# Altium schematic symbol library MCU_Microchip_ATtiny.SchLib: 223 symbols (part 2 of 3)
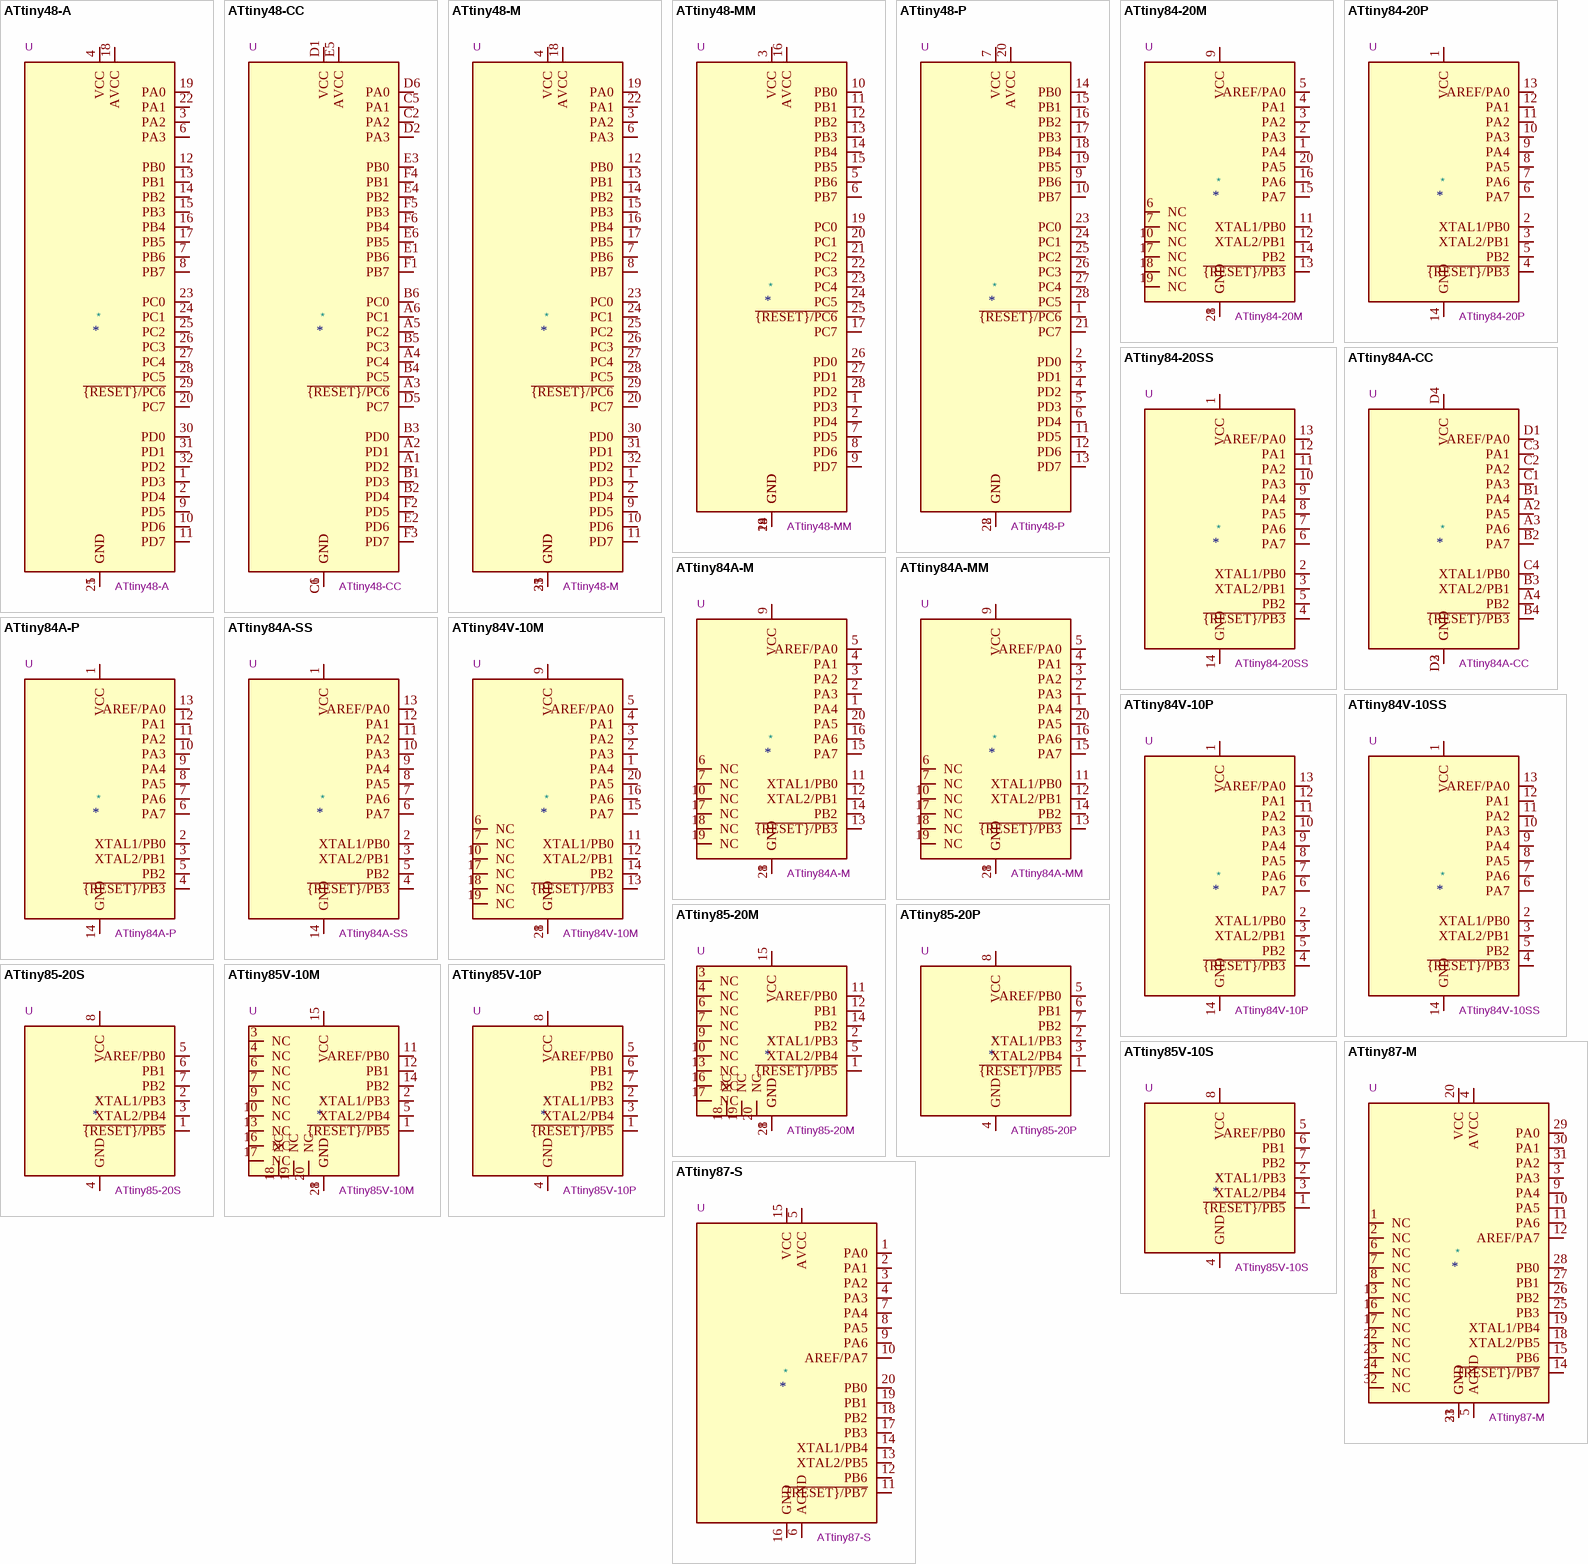
[diagram p10: symbols ATtiny48-A to ATtiny87-S]

## ATtiny48-P
designator *  value ATtiny48-P  Reference: U
12MHz, 4kB Flash, 256B SRAM, 64B EEPROM, DIP-28; ki_keywords: AVR 8bit Microcontroller tinyAVR; ki_fp_filters: DIP*W7.62mm*; Footprint: Package_DIP:DIP-28_W7.62mm; Datasheet: http://ww1.microchip.com/downloads/en/DeviceDoc/doc8008.pdf; Description_: 12MHz, 4kB Flash, 256B SRAM, 64B EEPROM, DIP-28
pins: 1 ~{{RESET}/PC6}, 2 PD0, 3 PD1, 4 PD2, 5 PD3, 6 PD4, 7 VCC, 8 GND, 9 PB6, 10 PB7, 11 PD5, 12 PD6, 13 PD7, 14 PB0, 15 PB1, 16 PB2, 17 PB3, 18 PB4, 19 PB5, 20 AVCC, 21 PC7, 22 GND, 23 PC0, 24 PC1, 25 PC2, 26 PC3, 27 PC4, 28 PC5

## ATtiny84-20M
designator *  value ATtiny84-20M  Reference: U
20MHz, 8kB Flash, 512B SRAM, 512B EEPROM, debugWIRE, QFN-20; ki_keywords: AVR 8bit Microcontroller tinyAVR; ki_fp_filters: QFN*1EP*4x4mm*P0.5mm*; Footprint: Package_DFN_QFN:QFN-20-1EP_4x4mm_P0.5mm_EP2.6x2.6mm; Datasheet: http://ww1.microchip.com/downloads/en/DeviceDoc/doc8006.pdf; Description_: 20MHz, 8kB Flash, 512B SRAM, 512B EEPROM, debugWIRE, QFN-20
pins: 1 PA4, 2 PA3, 3 PA2, 4 PA1, 5 AREF/PA0, 6 NC, 7 NC, 8 GND, 9 VCC, 10 NC, 11 XTAL1/PB0, 12 XTAL2/PB1, 13 ~{{RESET}/PB3}, 14 PB2, 15 PA7, 16 PA6, 17 NC, 18 NC, 19 NC, 20 PA5, 21 GND

## ATtiny84-20P
designator *  value ATtiny84-20P  Reference: U
20MHz, 8kB Flash, 512B SRAM, 512B EEPROM, debugWIRE, DIP-14; ki_keywords: AVR 8bit Microcontroller tinyAVR; ki_fp_filters: DIP*W7.62mm*; Footprint: Package_DIP:DIP-14_W7.62mm; Datasheet: http://ww1.microchip.com/downloads/en/DeviceDoc/doc8006.pdf; Description_: 20MHz, 8kB Flash, 512B SRAM, 512B EEPROM, debugWIRE, DIP-14
pins: 1 VCC, 2 XTAL1/PB0, 3 XTAL2/PB1, 4 ~{{RESET}/PB3}, 5 PB2, 6 PA7, 7 PA6, 8 PA5, 9 PA4, 10 PA3, 11 PA2, 12 PA1, 13 AREF/PA0, 14 GND

## ATtiny84-20SS
designator *  value ATtiny84-20SS  Reference: U
20MHz, 8kB Flash, 512B SRAM, 512B EEPROM, debugWIRE, SOIC-14; ki_keywords: AVR 8bit Microcontroller tinyAVR; ki_fp_filters: SOIC*3.9x8.7mm*P1.27mm*; Footprint: Package_SO:SOIC-14_3.9x8.7mm_P1.27mm; Datasheet: http://ww1.microchip.com/downloads/en/DeviceDoc/doc8006.pdf; Description_: 20MHz, 8kB Flash, 512B SRAM, 512B EEPROM, debugWIRE, SOIC-14
pins: 1 VCC, 2 XTAL1/PB0, 3 XTAL2/PB1, 4 ~{{RESET}/PB3}, 5 PB2, 6 PA7, 7 PA6, 8 PA5, 9 PA4, 10 PA3, 11 PA2, 12 PA1, 13 AREF/PA0, 14 GND

## ATtiny84A-CC
designator *  value ATtiny84A-CC  Reference: U
20MHz, 8kB Flash, 512B SRAM, 512B EEPROM, debugWIRE, UFBGA-15; ki_keywords: AVR 8bit Microcontroller tinyAVR; ki_fp_filters: UFBGA*3.0x3.0mm*Layout4x4*P0.65mm*; Footprint: Package_BGA:UFBGA-15_3.0x3.0mm_Layout4x4_P0.65mm; Datasheet: http://ww1.microchip.com/downloads/en/DeviceDoc/doc8183.pdf; Description_: 20MHz, 8kB Flash, 512B SRAM, 512B EEPROM, debugWIRE, UFBGA-15
pins: A2 PA5, A3 PA6, A4 PB2, B1 PA4, B2 PA7, B3 XTAL2/PB1, B4 ~{{RESET}/PB3}, C1 PA3, C2 PA2, C3 PA1, C4 XTAL1/PB0, D1 AREF/PA0, D2 GND, D3 GND, D4 VCC

## ATtiny84A-M
designator *  value ATtiny84A-M  Reference: U
20MHz, 8kB Flash, 512B SRAM, 512B EEPROM, debugWIRE, QFN-20; ki_keywords: AVR 8bit Microcontroller tinyAVR; ki_fp_filters: QFN*1EP*4x4mm*P0.5mm*; Footprint: Package_DFN_QFN:QFN-20-1EP_4x4mm_P0.5mm_EP2.6x2.6mm; Datasheet: http://ww1.microchip.com/downloads/en/DeviceDoc/doc8183.pdf; Description_: 20MHz, 8kB Flash, 512B SRAM, 512B EEPROM, debugWIRE, QFN-20
pins: 1 PA4, 2 PA3, 3 PA2, 4 PA1, 5 AREF/PA0, 6 NC, 7 NC, 8 GND, 9 VCC, 10 NC, 11 XTAL1/PB0, 12 XTAL2/PB1, 13 ~{{RESET}/PB3}, 14 PB2, 15 PA7, 16 PA6, 17 NC, 18 NC, 19 NC, 20 PA5, 21 GND

## ATtiny84A-MM
designator *  value ATtiny84A-MM  Reference: U
20MHz, 8kB Flash, 512B SRAM, 512B EEPROM, debugWIRE, QFN-20; ki_keywords: AVR 8bit Microcontroller tinyAVR; ki_fp_filters: QFN*1EP*3x3mm*P0.45mm*; Footprint: Package_DFN_QFN:QFN-20-1EP_3x3mm_P0.45mm_EP1.6x1.6mm; Datasheet: http://ww1.microchip.com/downloads/en/DeviceDoc/doc8183.pdf; Description_: 20MHz, 8kB Flash, 512B SRAM, 512B EEPROM, debugWIRE, QFN-20
pins: 1 PA4, 2 PA3, 3 PA2, 4 PA1, 5 AREF/PA0, 6 NC, 7 NC, 8 GND, 9 VCC, 10 NC, 11 XTAL1/PB0, 12 XTAL2/PB1, 13 ~{{RESET}/PB3}, 14 PB2, 15 PA7, 16 PA6, 17 NC, 18 NC, 19 NC, 20 PA5, 21 GND

## ATtiny84A-P
designator *  value ATtiny84A-P  Reference: U
20MHz, 8kB Flash, 512B SRAM, 512B EEPROM, debugWIRE, DIP-14; ki_keywords: AVR 8bit Microcontroller tinyAVR; ki_fp_filters: DIP*W7.62mm*; Footprint: Package_DIP:DIP-14_W7.62mm; Datasheet: http://ww1.microchip.com/downloads/en/DeviceDoc/doc8183.pdf; Description_: 20MHz, 8kB Flash, 512B SRAM, 512B EEPROM, debugWIRE, DIP-14
pins: 1 VCC, 2 XTAL1/PB0, 3 XTAL2/PB1, 4 ~{{RESET}/PB3}, 5 PB2, 6 PA7, 7 PA6, 8 PA5, 9 PA4, 10 PA3, 11 PA2, 12 PA1, 13 AREF/PA0, 14 GND

## ATtiny84A-SS
designator *  value ATtiny84A-SS  Reference: U
20MHz, 8kB Flash, 512B SRAM, 512B EEPROM, debugWIRE, SOIC-14; ki_keywords: AVR 8bit Microcontroller tinyAVR; ki_fp_filters: SOIC*3.9x8.7mm*P1.27mm*; Footprint: Package_SO:SOIC-14_3.9x8.7mm_P1.27mm; Datasheet: http://ww1.microchip.com/downloads/en/DeviceDoc/doc8183.pdf; Description_: 20MHz, 8kB Flash, 512B SRAM, 512B EEPROM, debugWIRE, SOIC-14
pins: 1 VCC, 2 XTAL1/PB0, 3 XTAL2/PB1, 4 ~{{RESET}/PB3}, 5 PB2, 6 PA7, 7 PA6, 8 PA5, 9 PA4, 10 PA3, 11 PA2, 12 PA1, 13 AREF/PA0, 14 GND

## ATtiny84V-10M
designator *  value ATtiny84V-10M  Reference: U
10MHz, 8kB Flash, 512B SRAM, 512B EEPROM, debugWIRE, QFN-20; ki_keywords: AVR 8bit Microcontroller tinyAVR; ki_fp_filters: QFN*1EP*4x4mm*P0.5mm*; Footprint: Package_DFN_QFN:QFN-20-1EP_4x4mm_P0.5mm_EP2.6x2.6mm; Datasheet: http://ww1.microchip.com/downloads/en/DeviceDoc/doc8006.pdf; Description_: 10MHz, 8kB Flash, 512B SRAM, 512B EEPROM, debugWIRE, QFN-20
pins: 1 PA4, 2 PA3, 3 PA2, 4 PA1, 5 AREF/PA0, 6 NC, 7 NC, 8 GND, 9 VCC, 10 NC, 11 XTAL1/PB0, 12 XTAL2/PB1, 13 ~{{RESET}/PB3}, 14 PB2, 15 PA7, 16 PA6, 17 NC, 18 NC, 19 NC, 20 PA5, 21 GND

## ATtiny84V-10P
designator *  value ATtiny84V-10P  Reference: U
10MHz, 8kB Flash, 512B SRAM, 512B EEPROM, debugWIRE, DIP-14; ki_keywords: AVR 8bit Microcontroller tinyAVR; ki_fp_filters: DIP*W7.62mm*; Footprint: Package_DIP:DIP-14_W7.62mm; Datasheet: http://ww1.microchip.com/downloads/en/DeviceDoc/doc8006.pdf; Description_: 10MHz, 8kB Flash, 512B SRAM, 512B EEPROM, debugWIRE, DIP-14
pins: 1 VCC, 2 XTAL1/PB0, 3 XTAL2/PB1, 4 ~{{RESET}/PB3}, 5 PB2, 6 PA7, 7 PA6, 8 PA5, 9 PA4, 10 PA3, 11 PA2, 12 PA1, 13 AREF/PA0, 14 GND

## ATtiny84V-10SS
designator *  value ATtiny84V-10SS  Reference: U
10MHz, 8kB Flash, 512B SRAM, 512B EEPROM, debugWIRE, SOIC-14; ki_keywords: AVR 8bit Microcontroller tinyAVR; ki_fp_filters: SOIC*3.9x8.7mm*P1.27mm*; Footprint: Package_SO:SOIC-14_3.9x8.7mm_P1.27mm; Datasheet: http://ww1.microchip.com/downloads/en/DeviceDoc/doc8006.pdf; Description_: 10MHz, 8kB Flash, 512B SRAM, 512B EEPROM, debugWIRE, SOIC-14
pins: 1 VCC, 2 XTAL1/PB0, 3 XTAL2/PB1, 4 ~{{RESET}/PB3}, 5 PB2, 6 PA7, 7 PA6, 8 PA5, 9 PA4, 10 PA3, 11 PA2, 12 PA1, 13 AREF/PA0, 14 GND

## ATtiny85-20M
designator *  value ATtiny85-20M  Reference: U
20MHz, 8kB Flash, 512B SRAM, 512B EEPROM, debugWIRE, QFN-20; ki_keywords: AVR 8bit Microcontroller tinyAVR; ki_fp_filters: QFN*1EP*4x4mm*P0.5mm*; Footprint: Package_DFN_QFN:QFN-20-1EP_4x4mm_P0.5mm_EP2.6x2.6mm; Datasheet: http://ww1.microchip.com/downloads/en/DeviceDoc/atmel-2586-avr-8-bit-microcontroller-attiny25-attiny45-attiny85_datasheet.pdf; Description_: 20MHz, 8kB Flash, 512B SRAM, 512B EEPROM, debugWIRE, QFN-20
pins: 1 ~{{RESET}/PB5}, 2 XTAL1/PB3, 3 NC, 4 NC, 5 XTAL2/PB4, 6 NC, 7 NC, 8 GND, 9 NC, 10 NC, 11 AREF/PB0, 12 PB1, 13 NC, 14 PB2, 15 VCC, 16 NC, 17 NC, 18 NC, 19 NC, 20 NC, 21 GND

## ATtiny85-20P
designator *  value ATtiny85-20P  Reference: U
20MHz, 8kB Flash, 512B SRAM, 512B EEPROM, debugWIRE, DIP-8; ki_keywords: AVR 8bit Microcontroller tinyAVR; ki_fp_filters: DIP*W7.62mm*; Footprint: Package_DIP:DIP-8_W7.62mm; Datasheet: http://ww1.microchip.com/downloads/en/DeviceDoc/atmel-2586-avr-8-bit-microcontroller-attiny25-attiny45-attiny85_datasheet.pdf; Description_: 20MHz, 8kB Flash, 512B SRAM, 512B EEPROM, debugWIRE, DIP-8
pins: 1 ~{{RESET}/PB5}, 2 XTAL1/PB3, 3 XTAL2/PB4, 4 GND, 5 AREF/PB0, 6 PB1, 7 PB2, 8 VCC

## ATtiny85-20S
designator *  value ATtiny85-20S  Reference: U
20MHz, 8kB Flash, 512B SRAM, 512B EEPROM, debugWIRE, SOIC-8; ki_keywords: AVR 8bit Microcontroller tinyAVR; ki_fp_filters: *SOIC*5.3x5.3mm*P1.27mm*; Footprint: Package_SO:SOIC-8_5.3x5.3mm_P1.27mm; Datasheet: http://ww1.microchip.com/downloads/en/DeviceDoc/atmel-2586-avr-8-bit-microcontroller-attiny25-attiny45-attiny85_datasheet.pdf; Description_: 20MHz, 8kB Flash, 512B SRAM, 512B EEPROM, debugWIRE, SOIC-8
pins: 1 ~{{RESET}/PB5}, 2 XTAL1/PB3, 3 XTAL2/PB4, 4 GND, 5 AREF/PB0, 6 PB1, 7 PB2, 8 VCC

## ATtiny85V-10M
designator *  value ATtiny85V-10M  Reference: U
10MHz, 8kB Flash, 512B SRAM, 512B EEPROM, debugWIRE, QFN-20; ki_keywords: AVR 8bit Microcontroller tinyAVR; ki_fp_filters: QFN*1EP*4x4mm*P0.5mm*; Footprint: Package_DFN_QFN:QFN-20-1EP_4x4mm_P0.5mm_EP2.6x2.6mm; Datasheet: http://ww1.microchip.com/downloads/en/DeviceDoc/atmel-2586-avr-8-bit-microcontroller-attiny25-attiny45-attiny85_datasheet.pdf; Description_: 10MHz, 8kB Flash, 512B SRAM, 512B EEPROM, debugWIRE, QFN-20
pins: 1 ~{{RESET}/PB5}, 2 XTAL1/PB3, 3 NC, 4 NC, 5 XTAL2/PB4, 6 NC, 7 NC, 8 GND, 9 NC, 10 NC, 11 AREF/PB0, 12 PB1, 13 NC, 14 PB2, 15 VCC, 16 NC, 17 NC, 18 NC, 19 NC, 20 NC, 21 GND

## ATtiny85V-10P
designator *  value ATtiny85V-10P  Reference: U
10MHz, 8kB Flash, 512B SRAM, 512B EEPROM, debugWIRE, DIP-8; ki_keywords: AVR 8bit Microcontroller tinyAVR; ki_fp_filters: DIP*W7.62mm*; Footprint: Package_DIP:DIP-8_W7.62mm; Datasheet: http://ww1.microchip.com/downloads/en/DeviceDoc/atmel-2586-avr-8-bit-microcontroller-attiny25-attiny45-attiny85_datasheet.pdf; Description_: 10MHz, 8kB Flash, 512B SRAM, 512B EEPROM, debugWIRE, DIP-8
pins: 1 ~{{RESET}/PB5}, 2 XTAL1/PB3, 3 XTAL2/PB4, 4 GND, 5 AREF/PB0, 6 PB1, 7 PB2, 8 VCC

## ATtiny85V-10S
designator *  value ATtiny85V-10S  Reference: U
10MHz, 8kB Flash, 512B SRAM, 512B EEPROM, debugWIRE, SOIC-8; ki_keywords: AVR 8bit Microcontroller tinyAVR; ki_fp_filters: *SOIC*5.3x5.3mm*P1.27mm*; Footprint: Package_SO:SOIC-8_5.3x5.3mm_P1.27mm; Datasheet: http://ww1.microchip.com/downloads/en/DeviceDoc/atmel-2586-avr-8-bit-microcontroller-attiny25-attiny45-attiny85_datasheet.pdf; Description_: 10MHz, 8kB Flash, 512B SRAM, 512B EEPROM, debugWIRE, SOIC-8
pins: 1 ~{{RESET}/PB5}, 2 XTAL1/PB3, 3 XTAL2/PB4, 4 GND, 5 AREF/PB0, 6 PB1, 7 PB2, 8 VCC

## ATtiny87-M
designator *  value ATtiny87-M  Reference: U
16MHz, 8kB Flash, 512B SRAM, 512B EEPROM, debugWIRE, QFN-32; ki_keywords: AVR 8bit Microcontroller tinyAVR Automotive; ki_fp_filters: QFN*1EP*5x5mm*P0.5mm*; Footprint: Package_DFN_QFN:QFN-32-1EP_5x5mm_P0.5mm_EP3.1x3.1mm; Datasheet: http://ww1.microchip.com/downloads/en/DeviceDoc/Atmel-8265-8-bit-AVR-Microcontroller-tinyAVR-ATtiny87-ATtiny167_datasheet.pdf; Description_: 16MHz, 8kB Flash, 512B SRAM, 512B EEPROM, debugWIRE, QFN-32
pins: 1 NC, 2 NC, 3 PA3, 4 AVCC, 5 AGND, 6 NC, 7 NC, 8 NC, 9 PA4, 10 PA5, 11 PA6, 12 AREF/PA7, 13 NC, 14 ~{{RESET}/PB7}, 15 PB6, 16 NC, 17 NC, 18 XTAL2/PB5, 19 XTAL1/PB4, 20 VCC, 21 GND, 22 NC, 23 NC, 24 NC, 25 PB3, 26 PB2, 27 PB1, 28 PB0, 29 PA0, 30 PA1, 31 PA2, 32 NC, 33 GND

## ATtiny87-S
designator *  value ATtiny87-S  Reference: U
16MHz, 8kB Flash, 512B SRAM, 512B EEPROM, debugWIRE, SOIC-20; ki_keywords: AVR 8bit Microcontroller tinyAVR Automotive; ki_fp_filters: SOIC*7.5x12.8mm*P1.27mm*; Footprint: Package_SO:SOIC-20W_7.5x12.8mm_P1.27mm; Datasheet: http://ww1.microchip.com/downloads/en/DeviceDoc/Atmel-8265-8-bit-AVR-Microcontroller-tinyAVR-ATtiny87-ATtiny167_datasheet.pdf; Description_: 16MHz, 8kB Flash, 512B SRAM, 512B EEPROM, debugWIRE, SOIC-20
pins: 1 PA0, 2 PA1, 3 PA2, 4 PA3, 5 AVCC, 6 AGND, 7 PA4, 8 PA5, 9 PA6, 10 AREF/PA7, 11 ~{{RESET}/PB7}, 12 PB6, 13 XTAL2/PB5, 14 XTAL1/PB4, 15 VCC, 16 GND, 17 PB3, 18 PB2, 19 PB1, 20 PB0

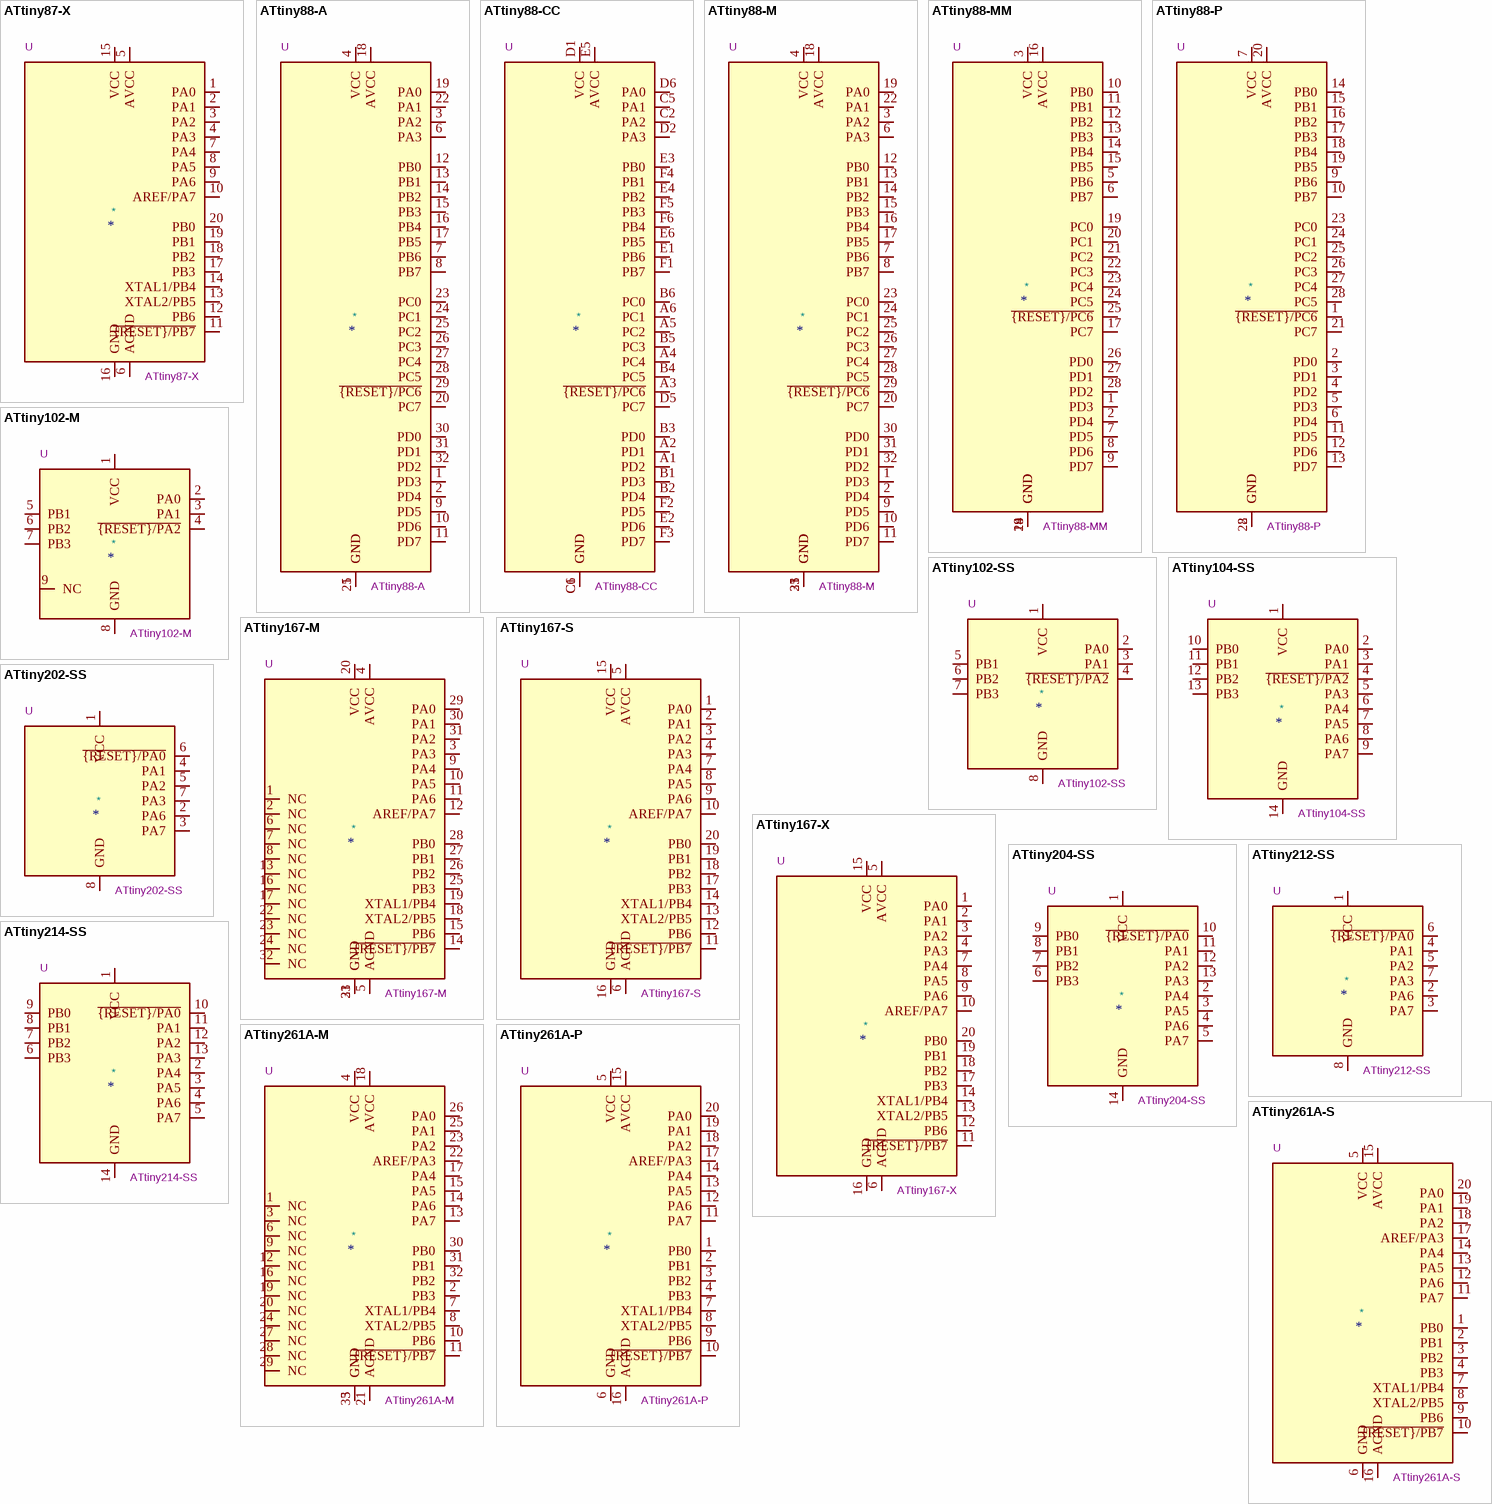
[diagram p4: symbols ATtiny87-X to ATtiny261A-S]

## ATtiny87-X
designator *  value ATtiny87-X  Reference: U
16MHz, 8kB Flash, 512B SRAM, 512B EEPROM, debugWIRE, TSSOP-20; ki_keywords: AVR 8bit Microcontroller tinyAVR Automotive; ki_fp_filters: TSSOP*4.4x6.5mm*P0.65mm*; Footprint: Package_SO:TSSOP-20_4.4x6.5mm_P0.65mm; Datasheet: http://ww1.microchip.com/downloads/en/DeviceDoc/Atmel-8265-8-bit-AVR-Microcontroller-tinyAVR-ATtiny87-ATtiny167_datasheet.pdf; Description_: 16MHz, 8kB Flash, 512B SRAM, 512B EEPROM, debugWIRE, TSSOP-20
pins: 1 PA0, 2 PA1, 3 PA2, 4 PA3, 5 AVCC, 6 AGND, 7 PA4, 8 PA5, 9 PA6, 10 AREF/PA7, 11 ~{{RESET}/PB7}, 12 PB6, 13 XTAL2/PB5, 14 XTAL1/PB4, 15 VCC, 16 GND, 17 PB3, 18 PB2, 19 PB1, 20 PB0

## ATtiny88-A
designator *  value ATtiny88-A  Reference: U
12MHz, 8kB Flash, 512B SRAM, 64B EEPROM, TQFP-32; ki_keywords: AVR 8bit Microcontroller tinyAVR; ki_fp_filters: TQFP*7x7mm*P0.8mm*; Footprint: Package_QFP:TQFP-32_7x7mm_P0.8mm; Datasheet: http://ww1.microchip.com/downloads/en/DeviceDoc/doc8008.pdf; Description_: 12MHz, 8kB Flash, 512B SRAM, 64B EEPROM, TQFP-32
pins: 1 PD3, 2 PD4, 3 PA2, 4 VCC, 5 GND, 6 PA3, 7 PB6, 8 PB7, 9 PD5, 10 PD6, 11 PD7, 12 PB0, 13 PB1, 14 PB2, 15 PB3, 16 PB4, 17 PB5, 18 AVCC, 19 PA0, 20 PC7, 21 GND, 22 PA1, 23 PC0, 24 PC1, 25 PC2, 26 PC3, 27 PC4, 28 PC5, 29 ~{{RESET}/PC6}, 30 PD0, 31 PD1, 32 PD2

## ATtiny88-CC
designator *  value ATtiny88-CC  Reference: U
12MHz, 8kB Flash, 512B SRAM, 64B EEPROM, UFBGA-32; ki_keywords: AVR 8bit Microcontroller tinyAVR; ki_fp_filters: UFBGA*4.0x4.0mm*Layout6x6*P0.5mm*; Footprint: Package_BGA:UFBGA-32_4.0x4.0mm_Layout6x6_P0.5mm; Datasheet: http://ww1.microchip.com/downloads/en/DeviceDoc/doc8008.pdf; Description_: 12MHz, 8kB Flash, 512B SRAM, 64B EEPROM, UFBGA-32
pins: A1 PD2, A2 PD1, A3 ~{{RESET}/PC6}, A4 PC4, A5 PC2, A6 PC1, B1 PD3, B2 PD4, B3 PD0, B4 PC5, B5 PC3, B6 PC0, C1 GND, C2 PA2, C5 PA1, C6 GND, D1 VCC, D2 PA3, D5 PC7, D6 PA0, E1 PB6, E2 PD6, E3 PB0, E4 PB2, E5 AVCC, E6 PB5, F1 PB7, F2 PD5, F3 PD7, F4 PB1, F5 PB3, F6 PB4

## ATtiny88-M
designator *  value ATtiny88-M  Reference: U
12MHz, 8kB Flash, 512B SRAM, 64B EEPROM, QFN-32; ki_keywords: AVR 8bit Microcontroller tinyAVR; ki_fp_filters: QFN*1EP*5x5mm*P0.5mm*; Footprint: Package_DFN_QFN:QFN-32-1EP_5x5mm_P0.5mm_EP3.1x3.1mm; Datasheet: http://ww1.microchip.com/downloads/en/DeviceDoc/doc8008.pdf; Description_: 12MHz, 8kB Flash, 512B SRAM, 64B EEPROM, QFN-32
pins: 1 PD3, 2 PD4, 3 PA2, 4 VCC, 5 GND, 6 PA3, 7 PB6, 8 PB7, 9 PD5, 10 PD6, 11 PD7, 12 PB0, 13 PB1, 14 PB2, 15 PB3, 16 PB4, 17 PB5, 18 AVCC, 19 PA0, 20 PC7, 21 GND, 22 PA1, 23 PC0, 24 PC1, 25 PC2, 26 PC3, 27 PC4, 28 PC5, 29 ~{{RESET}/PC6}, 30 PD0, 31 PD1, 32 PD2, 33 GND

## ATtiny88-MM
designator *  value ATtiny88-MM  Reference: U
12MHz, 8kB Flash, 512B SRAM, 64B EEPROM, QFN-28; ki_keywords: AVR 8bit Microcontroller tinyAVR; ki_fp_filters: QFN*1EP*4x4mm*P0.45mm*; Footprint: Package_DFN_QFN:QFN-28-1EP_4x4mm_P0.45mm_EP2.4x2.4mm; Datasheet: http://ww1.microchip.com/downloads/en/DeviceDoc/doc8008.pdf; Description_: 12MHz, 8kB Flash, 512B SRAM, 64B EEPROM, QFN-28
pins: 1 PD3, 2 PD4, 3 VCC, 4 GND, 5 PB6, 6 PB7, 7 PD5, 8 PD6, 9 PD7, 10 PB0, 11 PB1, 12 PB2, 13 PB3, 14 PB4, 15 PB5, 16 AVCC, 17 PC7, 18 GND, 19 PC0, 20 PC1, 21 PC2, 22 PC3, 23 PC4, 24 PC5, 25 ~{{RESET}/PC6}, 26 PD0, 27 PD1, 28 PD2, 29 GND

## ATtiny88-P
designator *  value ATtiny88-P  Reference: U
12MHz, 8kB Flash, 512B SRAM, 64B EEPROM, DIP-28; ki_keywords: AVR 8bit Microcontroller tinyAVR; ki_fp_filters: DIP*W7.62mm*; Footprint: Package_DIP:DIP-28_W7.62mm; Datasheet: http://ww1.microchip.com/downloads/en/DeviceDoc/doc8008.pdf; Description_: 12MHz, 8kB Flash, 512B SRAM, 64B EEPROM, DIP-28
pins: 1 ~{{RESET}/PC6}, 2 PD0, 3 PD1, 4 PD2, 5 PD3, 6 PD4, 7 VCC, 8 GND, 9 PB6, 10 PB7, 11 PD5, 12 PD6, 13 PD7, 14 PB0, 15 PB1, 16 PB2, 17 PB3, 18 PB4, 19 PB5, 20 AVCC, 21 PC7, 22 GND, 23 PC0, 24 PC1, 25 PC2, 26 PC3, 27 PC4, 28 PC5

## ATtiny102-M
designator *  value ATtiny102-M  Reference: U
12MHz, 1kB Flash, 32B SRAM, No EEPROM, DFN-8; ki_keywords: AVR 8bit Microcontroller tinyAVR; ki_fp_filters: DFN*1EP*3x2mm*P0.5mm*; Footprint: Package_DFN_QFN:DFN-8-1EP_3x2mm_P0.5mm_EP1.3x1.5mm; Datasheet: http://ww1.microchip.com/downloads/en/DeviceDoc/Atmel-42505-8-bit-AVR-Microcontrollers-ATtiny102-ATtiny104_Datasheet.pdf; Description_: 12MHz, 1kB Flash, 32B SRAM, No EEPROM, DFN-8
pins: 1 VCC, 2 PA0, 3 PA1, 4 ~{{RESET}/PA2}, 5 PB1, 6 PB2, 7 PB3, 8 GND, 9 NC

## ATtiny102-SS
designator *  value ATtiny102-SS  Reference: U
12MHz, 1kB Flash, 32B SRAM, No EEPROM, SOIC-8; ki_keywords: AVR 8bit Microcontroller tinyAVR; ki_fp_filters: SOIC*3.9x4.9mm*P1.27mm*; Footprint: Package_SO:SOIC-8_3.9x4.9mm_P1.27mm; Datasheet: http://ww1.microchip.com/downloads/en/DeviceDoc/Atmel-42505-8-bit-AVR-Microcontrollers-ATtiny102-ATtiny104_Datasheet.pdf; Description_: 12MHz, 1kB Flash, 32B SRAM, No EEPROM, SOIC-8
pins: 1 VCC, 2 PA0, 3 PA1, 4 ~{{RESET}/PA2}, 5 PB1, 6 PB2, 7 PB3, 8 GND

## ATtiny104-SS
designator *  value ATtiny104-SS  Reference: U
12MHz, 1kB Flash, 32B SRAM, No EEPROM, SOIC-14; ki_keywords: AVR 8bit Microcontroller tinyAVR; ki_fp_filters: SOIC*3.9x8.7mm*P1.27mm*; Footprint: Package_SO:SOIC-14_3.9x8.7mm_P1.27mm; Datasheet: http://ww1.microchip.com/downloads/en/DeviceDoc/Atmel-42505-8-bit-AVR-Microcontrollers-ATtiny102-ATtiny104_Datasheet.pdf; Description_: 12MHz, 1kB Flash, 32B SRAM, No EEPROM, SOIC-14
pins: 1 VCC, 2 PA0, 3 PA1, 4 ~{{RESET}/PA2}, 5 PA3, 6 PA4, 7 PA5, 8 PA6, 9 PA7, 10 PB0, 11 PB1, 12 PB2, 13 PB3, 14 GND

## ATtiny167-M
designator *  value ATtiny167-M  Reference: U
16MHz, 16kB Flash, 512B SRAM, 512B EEPROM, debugWIRE, QFN-32; ki_keywords: AVR 8bit Microcontroller tinyAVR Automotive; ki_fp_filters: QFN*1EP*5x5mm*P0.5mm*; Footprint: Package_DFN_QFN:QFN-32-1EP_5x5mm_P0.5mm_EP3.1x3.1mm; Datasheet: http://ww1.microchip.com/downloads/en/DeviceDoc/Atmel-8265-8-bit-AVR-Microcontroller-tinyAVR-ATtiny87-ATtiny167_datasheet.pdf; Description_: 16MHz, 16kB Flash, 512B SRAM, 512B EEPROM, debugWIRE, QFN-32
pins: 1 NC, 2 NC, 3 PA3, 4 AVCC, 5 AGND, 6 NC, 7 NC, 8 NC, 9 PA4, 10 PA5, 11 PA6, 12 AREF/PA7, 13 NC, 14 ~{{RESET}/PB7}, 15 PB6, 16 NC, 17 NC, 18 XTAL2/PB5, 19 XTAL1/PB4, 20 VCC, 21 GND, 22 NC, 23 NC, 24 NC, 25 PB3, 26 PB2, 27 PB1, 28 PB0, 29 PA0, 30 PA1, 31 PA2, 32 NC, 33 GND

## ATtiny167-S
designator *  value ATtiny167-S  Reference: U
16MHz, 16kB Flash, 512B SRAM, 512B EEPROM, debugWIRE, SOIC-20; ki_keywords: AVR 8bit Microcontroller tinyAVR Automotive; ki_fp_filters: SOIC*7.5x12.8mm*P1.27mm*; Footprint: Package_SO:SOIC-20W_7.5x12.8mm_P1.27mm; Datasheet: http://ww1.microchip.com/downloads/en/DeviceDoc/Atmel-8265-8-bit-AVR-Microcontroller-tinyAVR-ATtiny87-ATtiny167_datasheet.pdf; Description_: 16MHz, 16kB Flash, 512B SRAM, 512B EEPROM, debugWIRE, SOIC-20
pins: 1 PA0, 2 PA1, 3 PA2, 4 PA3, 5 AVCC, 6 AGND, 7 PA4, 8 PA5, 9 PA6, 10 AREF/PA7, 11 ~{{RESET}/PB7}, 12 PB6, 13 XTAL2/PB5, 14 XTAL1/PB4, 15 VCC, 16 GND, 17 PB3, 18 PB2, 19 PB1, 20 PB0

## ATtiny167-X
designator *  value ATtiny167-X  Reference: U
16MHz, 16kB Flash, 512B SRAM, 512B EEPROM, debugWIRE, TSSOP-20; ki_keywords: AVR 8bit Microcontroller tinyAVR Automotive; ki_fp_filters: TSSOP*4.4x6.5mm*P0.65mm*; Footprint: Package_SO:TSSOP-20_4.4x6.5mm_P0.65mm; Datasheet: http://ww1.microchip.com/downloads/en/DeviceDoc/Atmel-8265-8-bit-AVR-Microcontroller-tinyAVR-ATtiny87-ATtiny167_datasheet.pdf; Description_: 16MHz, 16kB Flash, 512B SRAM, 512B EEPROM, debugWIRE, TSSOP-20
pins: 1 PA0, 2 PA1, 3 PA2, 4 PA3, 5 AVCC, 6 AGND, 7 PA4, 8 PA5, 9 PA6, 10 AREF/PA7, 11 ~{{RESET}/PB7}, 12 PB6, 13 XTAL2/PB5, 14 XTAL1/PB4, 15 VCC, 16 GND, 17 PB3, 18 PB2, 19 PB1, 20 PB0

## ATtiny202-SS
designator *  value ATtiny202-SS  Reference: U
20MHz, 2kB Flash, 128B SRAM, 64B EEPROM, SOIC-8; ki_keywords: AVR 8bit Microcontroller tinyAVR; ki_fp_filters: SOIC*3.9x4.9mm*P1.27mm*; Footprint: Package_SO:SOIC-8_3.9x4.9mm_P1.27mm; Datasheet: http://ww1.microchip.com/downloads/en/DeviceDoc/ATtiny202-402-AVR-MCU-with-Core-Independent-Peripherals_and-picoPower-40001969A.pdf; Description_: 20MHz, 2kB Flash, 128B SRAM, 64B EEPROM, SOIC-8
pins: 1 VCC, 2 PA6, 3 PA7, 4 PA1, 5 PA2, 6 ~{{RESET}/PA0}, 7 PA3, 8 GND

## ATtiny204-SS
designator *  value ATtiny204-SS  Reference: U
20MHz, 2kB Flash, 128B SRAM, 64B EEPROM, SOIC-14; ki_keywords: AVR 8bit Microcontroller tinyAVR; ki_fp_filters: SOIC*3.9x8.7mm*P1.27mm*; Footprint: Package_SO:SOIC-14_3.9x8.7mm_P1.27mm; Datasheet: http://ww1.microchip.com/downloads/en/DeviceDoc/50002687A.pdf; Description_: 20MHz, 2kB Flash, 128B SRAM, 64B EEPROM, SOIC-14
pins: 1 VCC, 2 PA4, 3 PA5, 4 PA6, 5 PA7, 6 PB3, 7 PB2, 8 PB1, 9 PB0, 10 ~{{RESET}/PA0}, 11 PA1, 12 PA2, 13 PA3, 14 GND

## ATtiny212-SS
designator *  value ATtiny212-SS  Reference: U
20MHz, 2kB Flash, 128B SRAM, 64B EEPROM, SOIC-8; ki_keywords: AVR 8bit Microcontroller tinyAVR; ki_fp_filters: SOIC*3.9x4.9mm*P1.27mm*; Footprint: Package_SO:SOIC-8_3.9x4.9mm_P1.27mm; Datasheet: http://ww1.microchip.com/downloads/en/DeviceDoc/40001911A.pdf; Description_: 20MHz, 2kB Flash, 128B SRAM, 64B EEPROM, SOIC-8
pins: 1 VCC, 2 PA6, 3 PA7, 4 PA1, 5 PA2, 6 ~{{RESET}/PA0}, 7 PA3, 8 GND

## ATtiny214-SS
designator *  value ATtiny214-SS  Reference: U
20MHz, 2kB Flash, 128B SRAM, 64B EEPROM, SOIC-14; ki_keywords: AVR 8bit Microcontroller tinyAVR; ki_fp_filters: SOIC*3.9x8.7mm*P1.27mm*; Footprint: Package_SO:SOIC-14_3.9x8.7mm_P1.27mm; Datasheet: http://ww1.microchip.com/downloads/en/DeviceDoc/40001912A.pdf; Description_: 20MHz, 2kB Flash, 128B SRAM, 64B EEPROM, SOIC-14
pins: 1 VCC, 2 PA4, 3 PA5, 4 PA6, 5 PA7, 6 PB3, 7 PB2, 8 PB1, 9 PB0, 10 ~{{RESET}/PA0}, 11 PA1, 12 PA2, 13 PA3, 14 GND

## ATtiny261A-M
designator *  value ATtiny261A-M  Reference: U
20MHz, 2kB Flash, 128B SRAM, 128B EEPROM, QFN-32; ki_keywords: AVR 8bit Microcontroller tinyAVR; ki_fp_filters: QFN*1EP*5x5mm*P0.5mm*; Footprint: Package_DFN_QFN:QFN-32-1EP_5x5mm_P0.5mm_EP3.1x3.1mm; Datasheet: http://ww1.microchip.com/downloads/en/DeviceDoc/doc8197.pdf; Description_: 20MHz, 2kB Flash, 128B SRAM, 128B EEPROM, QFN-32
pins: 1 NC, 2 PB3, 3 NC, 4 VCC, 5 GND, 6 NC, 7 XTAL1/PB4, 8 XTAL2/PB5, 9 NC, 10 PB6, 11 ~{{RESET}/PB7}, 12 NC, 13 PA7, 14 PA6, 15 PA5, 16 NC, 17 PA4, 18 AVCC, 19 NC, 20 NC, 21 AGND, 22 AREF/PA3, 23 PA2, 24 NC, 25 PA1, 26 PA0, 27 NC, 28 NC, 29 NC, 30 PB0, 31 PB1, 32 PB2, 33 GND

## ATtiny261A-P
designator *  value ATtiny261A-P  Reference: U
20MHz, 2kB Flash, 128B SRAM, 128B EEPROM, DIP-20; ki_keywords: AVR 8bit Microcontroller tinyAVR; ki_fp_filters: DIP*W7.62mm*; Footprint: Package_DIP:DIP-20_W7.62mm; Datasheet: http://ww1.microchip.com/downloads/en/DeviceDoc/doc8197.pdf; Description_: 20MHz, 2kB Flash, 128B SRAM, 128B EEPROM, DIP-20
pins: 1 PB0, 2 PB1, 3 PB2, 4 PB3, 5 VCC, 6 GND, 7 XTAL1/PB4, 8 XTAL2/PB5, 9 PB6, 10 ~{{RESET}/PB7}, 11 PA7, 12 PA6, 13 PA5, 14 PA4, 15 AVCC, 16 AGND, 17 AREF/PA3, 18 PA2, 19 PA1, 20 PA0

## ATtiny261A-S
designator *  value ATtiny261A-S  Reference: U
20MHz, 2kB Flash, 128B SRAM, 128B EEPROM, SOIC-20; ki_keywords: AVR 8bit Microcontroller tinyAVR; ki_fp_filters: SOIC*7.5x12.8mm*P1.27mm*; Footprint: Package_SO:SOIC-20W_7.5x12.8mm_P1.27mm; Datasheet: http://ww1.microchip.com/downloads/en/DeviceDoc/doc8197.pdf; Description_: 20MHz, 2kB Flash, 128B SRAM, 128B EEPROM, SOIC-20
pins: 1 PB0, 2 PB1, 3 PB2, 4 PB3, 5 VCC, 6 GND, 7 XTAL1/PB4, 8 XTAL2/PB5, 9 PB6, 10 ~{{RESET}/PB7}, 11 PA7, 12 PA6, 13 PA5, 14 PA4, 15 AVCC, 16 AGND, 17 AREF/PA3, 18 PA2, 19 PA1, 20 PA0

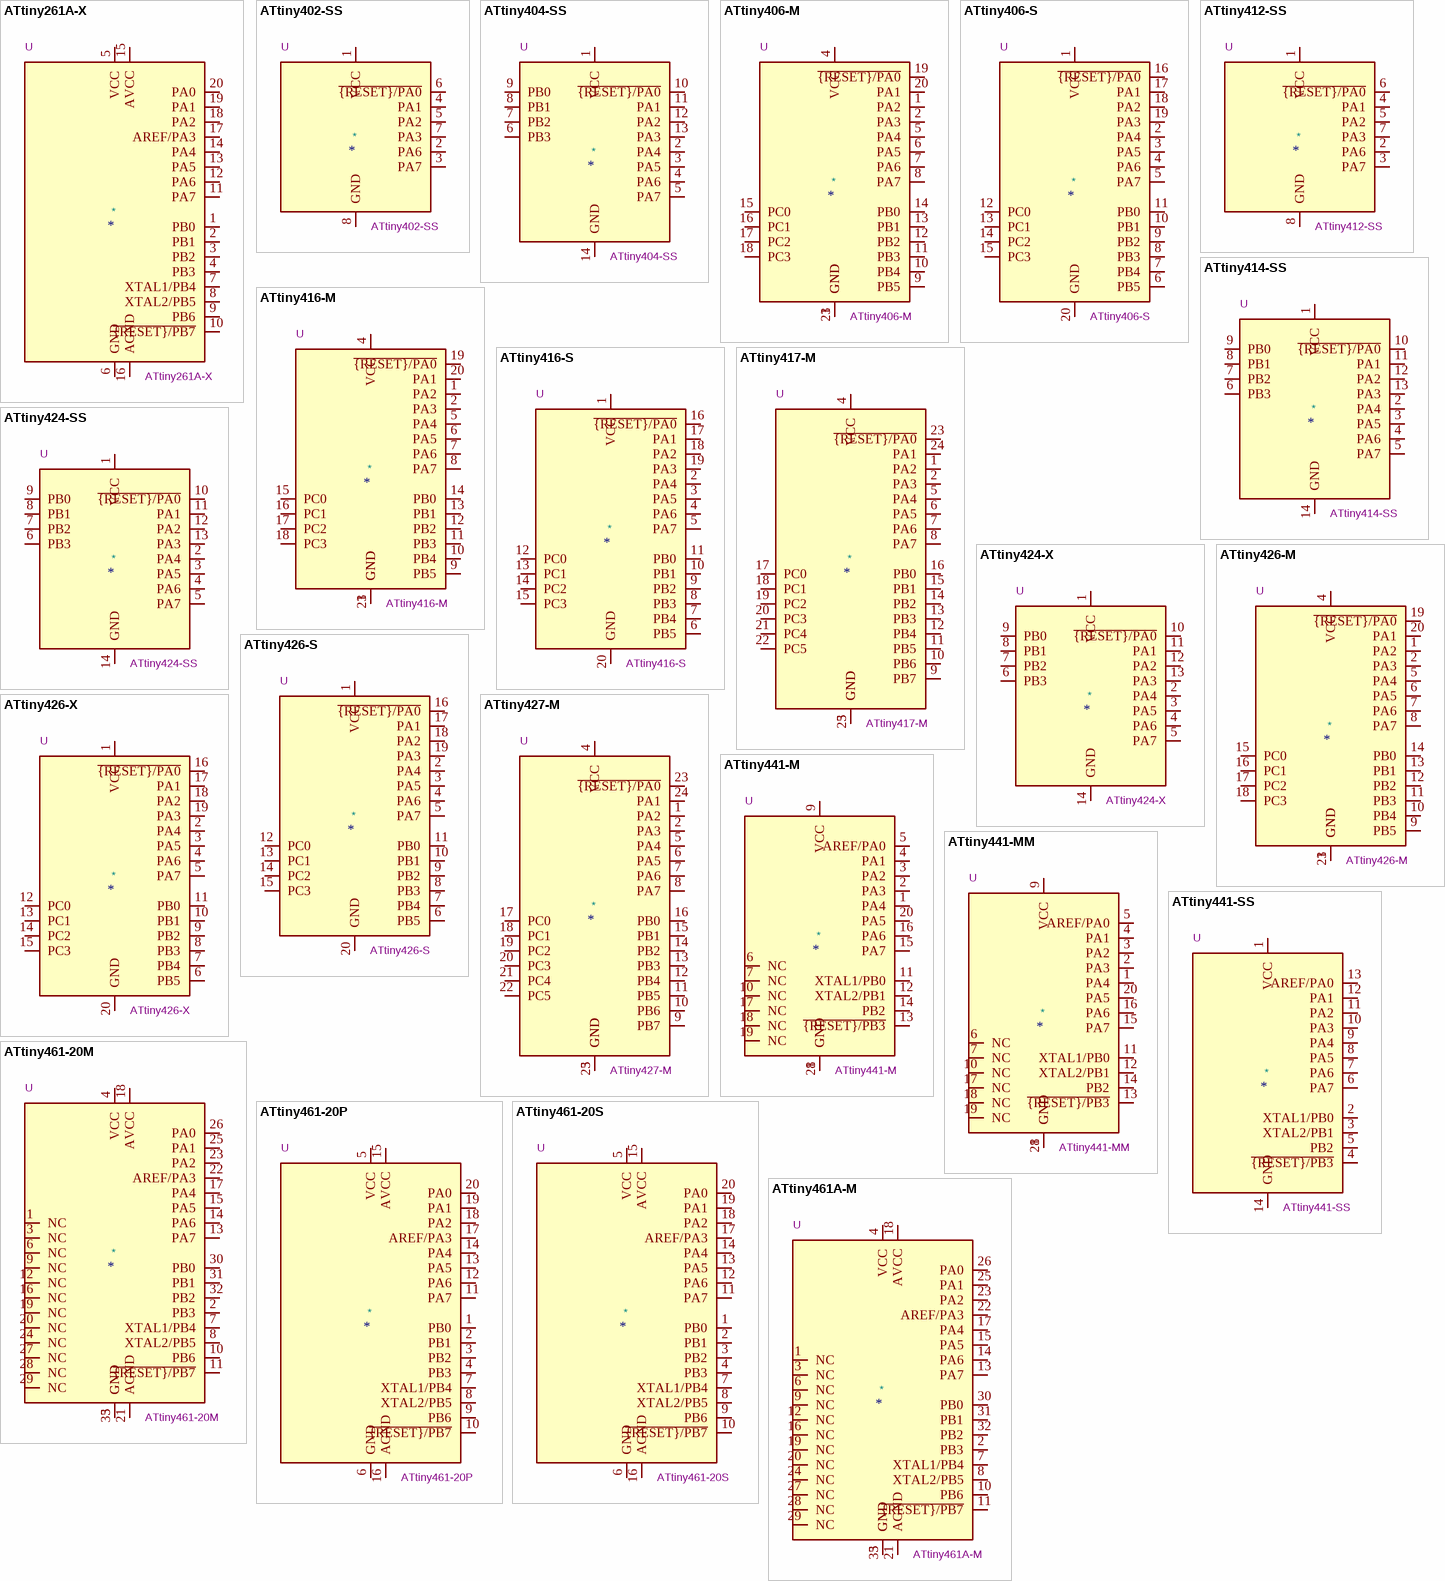
[diagram p5: symbols ATtiny261A-X to ATtiny461A-M]

## ATtiny261A-X
designator *  value ATtiny261A-X  Reference: U
20MHz, 2kB Flash, 128B SRAM, 128B EEPROM, TSSOP-20; ki_keywords: AVR 8bit Microcontroller tinyAVR; ki_fp_filters: TSSOP*4.4x6.5mm*P0.65mm*; Footprint: Package_SO:TSSOP-20_4.4x6.5mm_P0.65mm; Datasheet: http://ww1.microchip.com/downloads/en/DeviceDoc/doc8197.pdf; Description_: 20MHz, 2kB Flash, 128B SRAM, 128B EEPROM, TSSOP-20
pins: 1 PB0, 2 PB1, 3 PB2, 4 PB3, 5 VCC, 6 GND, 7 XTAL1/PB4, 8 XTAL2/PB5, 9 PB6, 10 ~{{RESET}/PB7}, 11 PA7, 12 PA6, 13 PA5, 14 PA4, 15 AVCC, 16 AGND, 17 AREF/PA3, 18 PA2, 19 PA1, 20 PA0

## ATtiny402-SS
designator *  value ATtiny402-SS  Reference: U
20MHz, 4kB Flash, 256B SRAM, 128B EEPROM, SOIC-8; ki_keywords: AVR 8bit Microcontroller tinyAVR; ki_fp_filters: SOIC*3.9x4.9mm*P1.27mm*; Footprint: Package_SO:SOIC-8_3.9x4.9mm_P1.27mm; Datasheet: http://ww1.microchip.com/downloads/en/DeviceDoc/ATtiny202-402-AVR-MCU-with-Core-Independent-Peripherals_and-picoPower-40001969A.pdf; Description_: 20MHz, 4kB Flash, 256B SRAM, 128B EEPROM, SOIC-8
pins: 1 VCC, 2 PA6, 3 PA7, 4 PA1, 5 PA2, 6 ~{{RESET}/PA0}, 7 PA3, 8 GND

## ATtiny404-SS
designator *  value ATtiny404-SS  Reference: U
20MHz, 4kB Flash, 256B SRAM, 128B EEPROM, SOIC-14; ki_keywords: AVR 8bit Microcontroller tinyAVR; ki_fp_filters: SOIC*3.9x8.7mm*P1.27mm*; Footprint: Package_SO:SOIC-14_3.9x8.7mm_P1.27mm; Datasheet: http://ww1.microchip.com/downloads/en/DeviceDoc/50002687A.pdf; Description_: 20MHz, 4kB Flash, 256B SRAM, 128B EEPROM, SOIC-14
pins: 1 VCC, 2 PA4, 3 PA5, 4 PA6, 5 PA7, 6 PB3, 7 PB2, 8 PB1, 9 PB0, 10 ~{{RESET}/PA0}, 11 PA1, 12 PA2, 13 PA3, 14 GND

## ATtiny406-M
designator *  value ATtiny406-M  Reference: U
20MHz, 4kB Flash, 256B SRAM, 128B EEPROM, VQFN-20; ki_keywords: AVR 8bit Microcontroller tinyAVR; ki_fp_filters: VQFN*1EP*3x3mm*P0.4mm*; Footprint: Package_DFN_QFN:VQFN-20-1EP_3x3mm_P0.4mm_EP1.7x1.7mm; Datasheet: http://ww1.microchip.com/downloads/en/DeviceDoc/Microchip%208bit%20mcu%20AVR%20ATtiny406%20data%20sheet%2040001976A.pdf; Description_: 20MHz, 4kB Flash, 256B SRAM, 128B EEPROM, VQFN-20
pins: 1 PA2, 2 PA3, 3 GND, 4 VCC, 5 PA4, 6 PA5, 7 PA6, 8 PA7, 9 PB5, 10 PB4, 11 PB3, 12 PB2, 13 PB1, 14 PB0, 15 PC0, 16 PC1, 17 PC2, 18 PC3, 19 ~{{RESET}/PA0}, 20 PA1, 21 GND

## ATtiny406-S
designator *  value ATtiny406-S  Reference: U
20MHz, 4kB Flash, 256B SRAM, 128B EEPROM, SOIC-20; ki_keywords: AVR 8bit Microcontroller tinyAVR; ki_fp_filters: SOIC*7.5x12.8mm*P1.27mm*; Footprint: Package_SO:SOIC-20W_7.5x12.8mm_P1.27mm; Datasheet: http://ww1.microchip.com/downloads/en/DeviceDoc/Microchip%208bit%20mcu%20AVR%20ATtiny406%20data%20sheet%2040001976A.pdf; Description_: 20MHz, 4kB Flash, 256B SRAM, 128B EEPROM, SOIC-20
pins: 1 VCC, 2 PA4, 3 PA5, 4 PA6, 5 PA7, 6 PB5, 7 PB4, 8 PB3, 9 PB2, 10 PB1, 11 PB0, 12 PC0, 13 PC1, 14 PC2, 15 PC3, 16 ~{{RESET}/PA0}, 17 PA1, 18 PA2, 19 PA3, 20 GND

## ATtiny412-SS
designator *  value ATtiny412-SS  Reference: U
20MHz, 4kB Flash, 256B SRAM, 128B EEPROM, SOIC-8; ki_keywords: AVR 8bit Microcontroller tinyAVR; ki_fp_filters: SOIC*3.9x4.9mm*P1.27mm*; Footprint: Package_SO:SOIC-8_3.9x4.9mm_P1.27mm; Datasheet: http://ww1.microchip.com/downloads/en/DeviceDoc/40001911A.pdf; Description_: 20MHz, 4kB Flash, 256B SRAM, 128B EEPROM, SOIC-8
pins: 1 VCC, 2 PA6, 3 PA7, 4 PA1, 5 PA2, 6 ~{{RESET}/PA0}, 7 PA3, 8 GND

## ATtiny414-SS
designator *  value ATtiny414-SS  Reference: U
20MHz, 4kB Flash, 256B SRAM, 128B EEPROM, SOIC-14; ki_keywords: AVR 8bit Microcontroller tinyAVR; ki_fp_filters: SOIC*3.9x8.7mm*P1.27mm*; Footprint: Package_SO:SOIC-14_3.9x8.7mm_P1.27mm; Datasheet: http://ww1.microchip.com/downloads/en/DeviceDoc/40001912A.pdf; Description_: 20MHz, 4kB Flash, 256B SRAM, 128B EEPROM, SOIC-14
pins: 1 VCC, 2 PA4, 3 PA5, 4 PA6, 5 PA7, 6 PB3, 7 PB2, 8 PB1, 9 PB0, 10 ~{{RESET}/PA0}, 11 PA1, 12 PA2, 13 PA3, 14 GND

## ATtiny416-M
designator *  value ATtiny416-M  Reference: U
20MHz, 4kB Flash, 256B SRAM, 128B EEPROM, VQFN-20; ki_keywords: AVR 8bit Microcontroller tinyAVR; ki_fp_filters: VQFN*1EP*3x3mm*P0.4mm*; Footprint: Package_DFN_QFN:VQFN-20-1EP_3x3mm_P0.4mm_EP1.7x1.7mm; Datasheet: http://ww1.microchip.com/downloads/en/DeviceDoc/40001913A.pdf; Description_: 20MHz, 4kB Flash, 256B SRAM, 128B EEPROM, VQFN-20
pins: 1 PA2, 2 PA3, 3 GND, 4 VCC, 5 PA4, 6 PA5, 7 PA6, 8 PA7, 9 PB5, 10 PB4, 11 PB3, 12 PB2, 13 PB1, 14 PB0, 15 PC0, 16 PC1, 17 PC2, 18 PC3, 19 ~{{RESET}/PA0}, 20 PA1, 21 GND

## ATtiny416-S
designator *  value ATtiny416-S  Reference: U
20MHz, 4kB Flash, 256B SRAM, 128B EEPROM, SOIC-20; ki_keywords: AVR 8bit Microcontroller tinyAVR; ki_fp_filters: SOIC*7.5x12.8mm*P1.27mm*; Footprint: Package_SO:SOIC-20W_7.5x12.8mm_P1.27mm; Datasheet: http://ww1.microchip.com/downloads/en/DeviceDoc/40001913A.pdf; Description_: 20MHz, 4kB Flash, 256B SRAM, 128B EEPROM, SOIC-20
pins: 1 VCC, 2 PA4, 3 PA5, 4 PA6, 5 PA7, 6 PB5, 7 PB4, 8 PB3, 9 PB2, 10 PB1, 11 PB0, 12 PC0, 13 PC1, 14 PC2, 15 PC3, 16 ~{{RESET}/PA0}, 17 PA1, 18 PA2, 19 PA3, 20 GND

## ATtiny417-M
designator *  value ATtiny417-M  Reference: U
20MHz, 4kB Flash, 256B SRAM, 128B EEPROM, VQFN-24; ki_keywords: AVR 8bit Microcontroller tinyAVR; ki_fp_filters: QFN*1EP*4x4mm*P0.5mm*; Footprint: Package_DFN_QFN:QFN-24-1EP_4x4mm_P0.5mm_EP2.6x2.6mm; Datasheet: http://ww1.microchip.com/downloads/en/DeviceDoc/40001901B.pdf; Description_: 20MHz, 4kB Flash, 256B SRAM, 128B EEPROM, VQFN-24
pins: 1 PA2, 2 PA3, 3 GND, 4 VCC, 5 PA4, 6 PA5, 7 PA6, 8 PA7, 9 PB7, 10 PB6, 11 PB5, 12 PB4, 13 PB3, 14 PB2, 15 PB1, 16 PB0, 17 PC0, 18 PC1, 19 PC2, 20 PC3, 21 PC4, 22 PC5, 23 ~{{RESET}/PA0}, 24 PA1, 25 GND

## ATtiny424-SS
designator *  value ATtiny424-SS  Reference: U
20MHz, 4kB Flash, 512B SRAM, 128B EEPROM, SOIC-14; ki_keywords: AVR 8bit Microcontroller tinyAVR; ki_fp_filters: SOIC*3.9x8.7mm*P1.27mm*; Footprint: Package_SO:SOIC-14_3.9x8.7mm_P1.27mm; Datasheet: https://ww1.microchip.com/downloads/en/DeviceDoc/ATtiny424-426-427-824-826-827-DataSheet-DS40002311A.pdf; Description_: 20MHz, 4kB Flash, 512B SRAM, 128B EEPROM, SOIC-14
pins: 1 VCC, 2 PA4, 3 PA5, 4 PA6, 5 PA7, 6 PB3, 7 PB2, 8 PB1, 9 PB0, 10 ~{{RESET}/PA0}, 11 PA1, 12 PA2, 13 PA3, 14 GND

## ATtiny424-X
designator *  value ATtiny424-X  Reference: U
20MHz, 4kB Flash, 512B SRAM, 128B EEPROM, TSSOP-14; ki_keywords: AVR 8bit Microcontroller tinyAVR; ki_fp_filters: TSSOP*4.4x5mm*P0.65mm*; Footprint: Package_SO:TSSOP-14_4.4x5mm_P0.65mm; Datasheet: https://ww1.microchip.com/downloads/en/DeviceDoc/ATtiny424-426-427-824-826-827-DataSheet-DS40002311A.pdf; Description_: 20MHz, 4kB Flash, 512B SRAM, 128B EEPROM, TSSOP-14
pins: 1 VCC, 2 PA4, 3 PA5, 4 PA6, 5 PA7, 6 PB3, 7 PB2, 8 PB1, 9 PB0, 10 ~{{RESET}/PA0}, 11 PA1, 12 PA2, 13 PA3, 14 GND

## ATtiny426-M
designator *  value ATtiny426-M  Reference: U
20MHz, 4kB Flash, 512B SRAM, 128B EEPROM, VQFN-20; ki_keywords: AVR 8bit Microcontroller tinyAVR; ki_fp_filters: VQFN*1EP*3x3mm*P0.4mm*; Footprint: Package_DFN_QFN:VQFN-20-1EP_3x3mm_P0.4mm_EP1.7x1.7mm; Datasheet: https://ww1.microchip.com/downloads/en/DeviceDoc/ATtiny424-426-427-824-826-827-DataSheet-DS40002311A.pdf; Description_: 20MHz, 4kB Flash, 512B SRAM, 128B EEPROM, VQFN-20
pins: 1 PA2, 2 PA3, 3 GND, 4 VCC, 5 PA4, 6 PA5, 7 PA6, 8 PA7, 9 PB5, 10 PB4, 11 PB3, 12 PB2, 13 PB1, 14 PB0, 15 PC0, 16 PC1, 17 PC2, 18 PC3, 19 ~{{RESET}/PA0}, 20 PA1, 21 GND

## ATtiny426-S
designator *  value ATtiny426-S  Reference: U
20MHz, 4kB Flash, 512B SRAM, 128B EEPROM, SOIC-20; ki_keywords: AVR 8bit Microcontroller tinyAVR; ki_fp_filters: SOIC*7.5x12.8mm*P1.27mm*; Footprint: Package_SO:SOIC-20W_7.5x12.8mm_P1.27mm; Datasheet: https://ww1.microchip.com/downloads/en/DeviceDoc/ATtiny424-426-427-824-826-827-DataSheet-DS40002311A.pdf; Description_: 20MHz, 4kB Flash, 512B SRAM, 128B EEPROM, SOIC-20
pins: 1 VCC, 2 PA4, 3 PA5, 4 PA6, 5 PA7, 6 PB5, 7 PB4, 8 PB3, 9 PB2, 10 PB1, 11 PB0, 12 PC0, 13 PC1, 14 PC2, 15 PC3, 16 ~{{RESET}/PA0}, 17 PA1, 18 PA2, 19 PA3, 20 GND

## ATtiny426-X
designator *  value ATtiny426-X  Reference: U
20MHz, 4kB Flash, 512B SRAM, 128B EEPROM, SSOP-20; ki_keywords: AVR 8bit Microcontroller tinyAVR; ki_fp_filters: SSOP*5.3x7.2mm*P0.65mm*; Footprint: Package_SO:SSOP-20_5.3x7.2mm_P0.65mm; Datasheet: https://ww1.microchip.com/downloads/en/DeviceDoc/ATtiny424-426-427-824-826-827-DataSheet-DS40002311A.pdf; Description_: 20MHz, 4kB Flash, 512B SRAM, 128B EEPROM, SSOP-20
pins: 1 VCC, 2 PA4, 3 PA5, 4 PA6, 5 PA7, 6 PB5, 7 PB4, 8 PB3, 9 PB2, 10 PB1, 11 PB0, 12 PC0, 13 PC1, 14 PC2, 15 PC3, 16 ~{{RESET}/PA0}, 17 PA1, 18 PA2, 19 PA3, 20 GND

## ATtiny427-M
designator *  value ATtiny427-M  Reference: U
20MHz, 4kB Flash, 512B SRAM, 128B EEPROM, VQFN-24; ki_keywords: AVR 8bit Microcontroller tinyAVR; ki_fp_filters: QFN*1EP*4x4mm*P0.5mm*; Footprint: Package_DFN_QFN:QFN-24-1EP_4x4mm_P0.5mm_EP2.6x2.6mm; Datasheet: https://ww1.microchip.com/downloads/en/DeviceDoc/ATtiny424-426-427-824-826-827-DataSheet-DS40002311A.pdf; Description_: 20MHz, 4kB Flash, 512B SRAM, 128B EEPROM, VQFN-24
pins: 1 PA2, 2 PA3, 3 GND, 4 VCC, 5 PA4, 6 PA5, 7 PA6, 8 PA7, 9 PB7, 10 PB6, 11 PB5, 12 PB4, 13 PB3, 14 PB2, 15 PB1, 16 PB0, 17 PC0, 18 PC1, 19 PC2, 20 PC3, 21 PC4, 22 PC5, 23 ~{{RESET}/PA0}, 24 PA1, 25 GND

## ATtiny441-M
designator *  value ATtiny441-M  Reference: U
16MHz, 4kB Flash, 256B SRAM, 256B EEPROM, ADC, ACI, debugWIRE, QFN-20; ki_keywords: AVR 8bit Microcontroller tinyAVR; ki_fp_filters: QFN*1EP*4x4mm*P0.5mm*; Footprint: Package_DFN_QFN:QFN-20-1EP_4x4mm_P0.5mm_EP2.6x2.6mm; Datasheet: http://ww1.microchip.com/downloads/en/DeviceDoc/Atmel-8495-8-bit-AVR-Microcontrollers-ATtiny441-ATtiny841_Datasheet.pdf; Description_: 16MHz, 4kB Flash, 256B SRAM, 256B EEPROM, ADC, ACI, debugWIRE, QFN-20
pins: 1 PA4, 2 PA3, 3 PA2, 4 PA1, 5 AREF/PA0, 6 NC, 7 NC, 8 GND, 9 VCC, 10 NC, 11 XTAL1/PB0, 12 XTAL2/PB1, 13 ~{{RESET}/PB3}, 14 PB2, 15 PA7, 16 PA6, 17 NC, 18 NC, 19 NC, 20 PA5, 21 GND

## ATtiny441-MM
designator *  value ATtiny441-MM  Reference: U
16MHz, 4kB Flash, 256B SRAM, 256B EEPROM, ADC, ACI, debugWIRE, QFN-20; ki_keywords: AVR 8bit Microcontroller tinyAVR; ki_fp_filters: QFN*1EP*3x3mm*P0.45mm*; Footprint: Package_DFN_QFN:QFN-20-1EP_3x3mm_P0.45mm_EP1.6x1.6mm; Datasheet: http://ww1.microchip.com/downloads/en/DeviceDoc/Atmel-8495-8-bit-AVR-Microcontrollers-ATtiny441-ATtiny841_Datasheet.pdf; Description_: 16MHz, 4kB Flash, 256B SRAM, 256B EEPROM, ADC, ACI, debugWIRE, QFN-20
pins: 1 PA4, 2 PA3, 3 PA2, 4 PA1, 5 AREF/PA0, 6 NC, 7 NC, 8 GND, 9 VCC, 10 NC, 11 XTAL1/PB0, 12 XTAL2/PB1, 13 ~{{RESET}/PB3}, 14 PB2, 15 PA7, 16 PA6, 17 NC, 18 NC, 19 NC, 20 PA5, 21 GND

## ATtiny441-SS
designator *  value ATtiny441-SS  Reference: U
16MHz, 4kB Flash, 256B SRAM, 256B EEPROM, ADC, ACI, debugWIRE, SOIC-14; ki_keywords: AVR 8bit Microcontroller tinyAVR; ki_fp_filters: SOIC*3.9x8.7mm*P1.27mm*; Footprint: Package_SO:SOIC-14_3.9x8.7mm_P1.27mm; Datasheet: http://ww1.microchip.com/downloads/en/DeviceDoc/Atmel-8495-8-bit-AVR-Microcontrollers-ATtiny441-ATtiny841_Datasheet.pdf; Description_: 16MHz, 4kB Flash, 256B SRAM, 256B EEPROM, ADC, ACI, debugWIRE, SOIC-14
pins: 1 VCC, 2 XTAL1/PB0, 3 XTAL2/PB1, 4 ~{{RESET}/PB3}, 5 PB2, 6 PA7, 7 PA6, 8 PA5, 9 PA4, 10 PA3, 11 PA2, 12 PA1, 13 AREF/PA0, 14 GND

## ATtiny461-20M
designator *  value ATtiny461-20M  Reference: U
20MHz, 4kB Flash, 256B SRAM, 256B EEPROM, QFN-32; ki_keywords: AVR 8bit Microcontroller tinyAVR; ki_fp_filters: QFN*1EP*5x5mm*P0.5mm*; Footprint: Package_DFN_QFN:QFN-32-1EP_5x5mm_P0.5mm_EP3.1x3.1mm; Datasheet: http://ww1.microchip.com/downloads/en/DeviceDoc/atmel-2588-8-bit-avr-microcontrollers-tinyavr-attiny261-attiny461-attiny861_datasheet.pdf; Description_: 20MHz, 4kB Flash, 256B SRAM, 256B EEPROM, QFN-32
pins: 1 NC, 2 PB3, 3 NC, 4 VCC, 5 GND, 6 NC, 7 XTAL1/PB4, 8 XTAL2/PB5, 9 NC, 10 PB6, 11 ~{{RESET}/PB7}, 12 NC, 13 PA7, 14 PA6, 15 PA5, 16 NC, 17 PA4, 18 AVCC, 19 NC, 20 NC, 21 AGND, 22 AREF/PA3, 23 PA2, 24 NC, 25 PA1, 26 PA0, 27 NC, 28 NC, 29 NC, 30 PB0, 31 PB1, 32 PB2, 33 GND

## ATtiny461-20P
designator *  value ATtiny461-20P  Reference: U
20MHz, 4kB Flash, 256B SRAM, 256B EEPROM, DIP-20; ki_keywords: AVR 8bit Microcontroller tinyAVR; ki_fp_filters: DIP*W7.62mm*; Footprint: Package_DIP:DIP-20_W7.62mm; Datasheet: http://ww1.microchip.com/downloads/en/DeviceDoc/atmel-2588-8-bit-avr-microcontrollers-tinyavr-attiny261-attiny461-attiny861_datasheet.pdf; Description_: 20MHz, 4kB Flash, 256B SRAM, 256B EEPROM, DIP-20
pins: 1 PB0, 2 PB1, 3 PB2, 4 PB3, 5 VCC, 6 GND, 7 XTAL1/PB4, 8 XTAL2/PB5, 9 PB6, 10 ~{{RESET}/PB7}, 11 PA7, 12 PA6, 13 PA5, 14 PA4, 15 AVCC, 16 AGND, 17 AREF/PA3, 18 PA2, 19 PA1, 20 PA0

## ATtiny461-20S
designator *  value ATtiny461-20S  Reference: U
20MHz, 4kB Flash, 256B SRAM, 256B EEPROM, SOIC-20; ki_keywords: AVR 8bit Microcontroller tinyAVR; ki_fp_filters: SOIC*7.5x12.8mm*P1.27mm*; Footprint: Package_SO:SOIC-20W_7.5x12.8mm_P1.27mm; Datasheet: http://ww1.microchip.com/downloads/en/DeviceDoc/atmel-2588-8-bit-avr-microcontrollers-tinyavr-attiny261-attiny461-attiny861_datasheet.pdf; Description_: 20MHz, 4kB Flash, 256B SRAM, 256B EEPROM, SOIC-20
pins: 1 PB0, 2 PB1, 3 PB2, 4 PB3, 5 VCC, 6 GND, 7 XTAL1/PB4, 8 XTAL2/PB5, 9 PB6, 10 ~{{RESET}/PB7}, 11 PA7, 12 PA6, 13 PA5, 14 PA4, 15 AVCC, 16 AGND, 17 AREF/PA3, 18 PA2, 19 PA1, 20 PA0

## ATtiny461A-M
designator *  value ATtiny461A-M  Reference: U
20MHz, 4kB Flash, 256B SRAM, 256B EEPROM, QFN-32; ki_keywords: AVR 8bit Microcontroller tinyAVR; ki_fp_filters: QFN*1EP*5x5mm*P0.5mm*; Footprint: Package_DFN_QFN:QFN-32-1EP_5x5mm_P0.5mm_EP3.1x3.1mm; Datasheet: http://ww1.microchip.com/downloads/en/DeviceDoc/doc8197.pdf; Description_: 20MHz, 4kB Flash, 256B SRAM, 256B EEPROM, QFN-32
pins: 1 NC, 2 PB3, 3 NC, 4 VCC, 5 GND, 6 NC, 7 XTAL1/PB4, 8 XTAL2/PB5, 9 NC, 10 PB6, 11 ~{{RESET}/PB7}, 12 NC, 13 PA7, 14 PA6, 15 PA5, 16 NC, 17 PA4, 18 AVCC, 19 NC, 20 NC, 21 AGND, 22 AREF/PA3, 23 PA2, 24 NC, 25 PA1, 26 PA0, 27 NC, 28 NC, 29 NC, 30 PB0, 31 PB1, 32 PB2, 33 GND

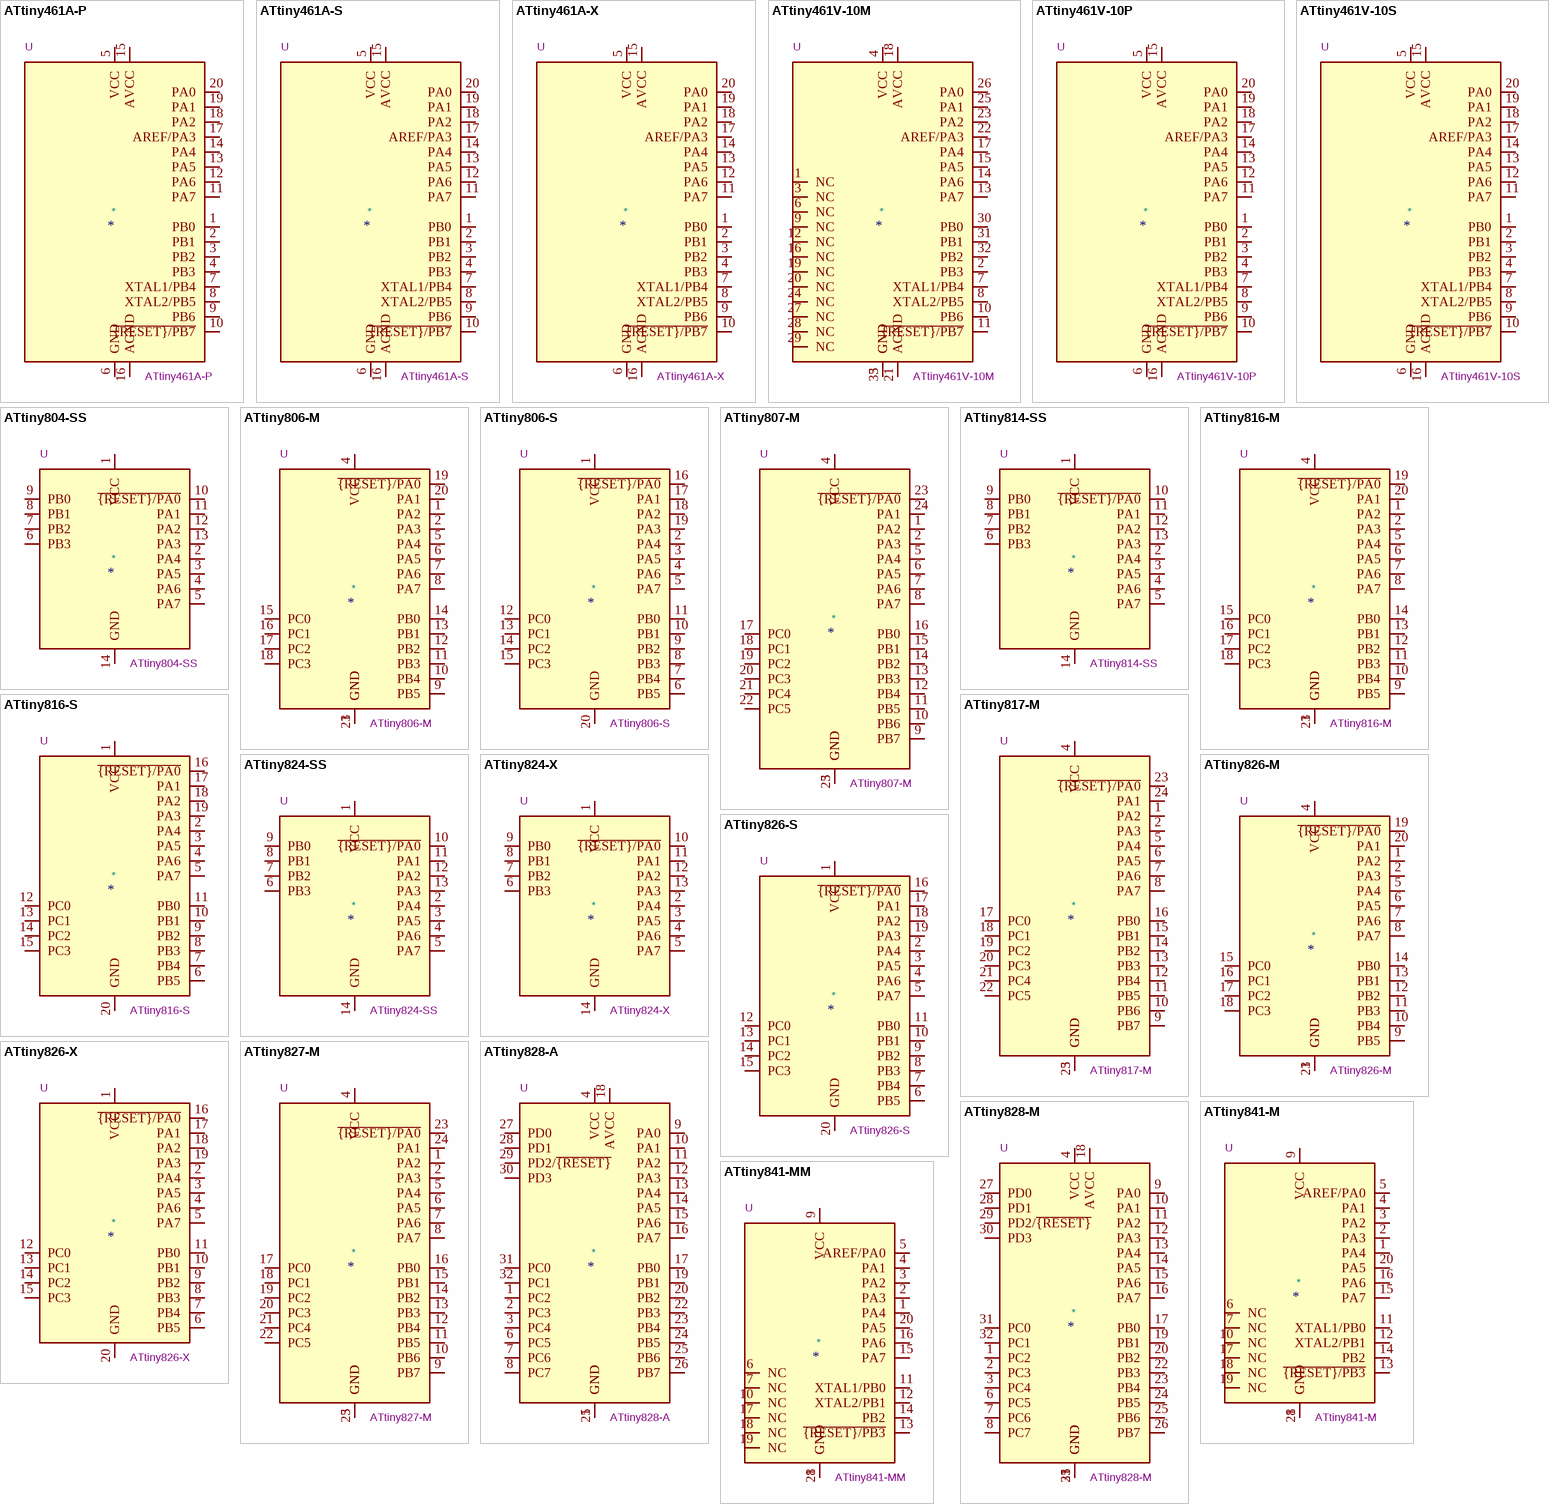
[diagram p6: symbols ATtiny461A-P to ATtiny841-MM]

## ATtiny461A-P
designator *  value ATtiny461A-P  Reference: U
20MHz, 4kB Flash, 256B SRAM, 256B EEPROM, DIP-20; ki_keywords: AVR 8bit Microcontroller tinyAVR; ki_fp_filters: DIP*W7.62mm*; Footprint: Package_DIP:DIP-20_W7.62mm; Datasheet: http://ww1.microchip.com/downloads/en/DeviceDoc/doc8197.pdf; Description_: 20MHz, 4kB Flash, 256B SRAM, 256B EEPROM, DIP-20
pins: 1 PB0, 2 PB1, 3 PB2, 4 PB3, 5 VCC, 6 GND, 7 XTAL1/PB4, 8 XTAL2/PB5, 9 PB6, 10 ~{{RESET}/PB7}, 11 PA7, 12 PA6, 13 PA5, 14 PA4, 15 AVCC, 16 AGND, 17 AREF/PA3, 18 PA2, 19 PA1, 20 PA0

## ATtiny461A-S
designator *  value ATtiny461A-S  Reference: U
20MHz, 4kB Flash, 256B SRAM, 256B EEPROM, SOIC-20; ki_keywords: AVR 8bit Microcontroller tinyAVR; ki_fp_filters: SOIC*7.5x12.8mm*P1.27mm*; Footprint: Package_SO:SOIC-20W_7.5x12.8mm_P1.27mm; Datasheet: http://ww1.microchip.com/downloads/en/DeviceDoc/doc8197.pdf; Description_: 20MHz, 4kB Flash, 256B SRAM, 256B EEPROM, SOIC-20
pins: 1 PB0, 2 PB1, 3 PB2, 4 PB3, 5 VCC, 6 GND, 7 XTAL1/PB4, 8 XTAL2/PB5, 9 PB6, 10 ~{{RESET}/PB7}, 11 PA7, 12 PA6, 13 PA5, 14 PA4, 15 AVCC, 16 AGND, 17 AREF/PA3, 18 PA2, 19 PA1, 20 PA0

## ATtiny461A-X
designator *  value ATtiny461A-X  Reference: U
20MHz, 4kB Flash, 256B SRAM, 256B EEPROM, TSSOP-20; ki_keywords: AVR 8bit Microcontroller tinyAVR; ki_fp_filters: TSSOP*4.4x6.5mm*P0.65mm*; Footprint: Package_SO:TSSOP-20_4.4x6.5mm_P0.65mm; Datasheet: http://ww1.microchip.com/downloads/en/DeviceDoc/doc8197.pdf; Description_: 20MHz, 4kB Flash, 256B SRAM, 256B EEPROM, TSSOP-20
pins: 1 PB0, 2 PB1, 3 PB2, 4 PB3, 5 VCC, 6 GND, 7 XTAL1/PB4, 8 XTAL2/PB5, 9 PB6, 10 ~{{RESET}/PB7}, 11 PA7, 12 PA6, 13 PA5, 14 PA4, 15 AVCC, 16 AGND, 17 AREF/PA3, 18 PA2, 19 PA1, 20 PA0

## ATtiny461V-10M
designator *  value ATtiny461V-10M  Reference: U
10MHz, 4kB Flash, 256B SRAM, 256B EEPROM, QFN-32; ki_keywords: AVR 8bit Microcontroller tinyAVR; ki_fp_filters: QFN*1EP*5x5mm*P0.5mm*; Footprint: Package_DFN_QFN:QFN-32-1EP_5x5mm_P0.5mm_EP3.1x3.1mm; Datasheet: http://ww1.microchip.com/downloads/en/DeviceDoc/atmel-2588-8-bit-avr-microcontrollers-tinyavr-attiny261-attiny461-attiny861_datasheet.pdf; Description_: 10MHz, 4kB Flash, 256B SRAM, 256B EEPROM, QFN-32
pins: 1 NC, 2 PB3, 3 NC, 4 VCC, 5 GND, 6 NC, 7 XTAL1/PB4, 8 XTAL2/PB5, 9 NC, 10 PB6, 11 ~{{RESET}/PB7}, 12 NC, 13 PA7, 14 PA6, 15 PA5, 16 NC, 17 PA4, 18 AVCC, 19 NC, 20 NC, 21 AGND, 22 AREF/PA3, 23 PA2, 24 NC, 25 PA1, 26 PA0, 27 NC, 28 NC, 29 NC, 30 PB0, 31 PB1, 32 PB2, 33 GND

## ATtiny461V-10P
designator *  value ATtiny461V-10P  Reference: U
10MHz, 4kB Flash, 256B SRAM, 256B EEPROM, DIP-20; ki_keywords: AVR 8bit Microcontroller tinyAVR; ki_fp_filters: DIP*W7.62mm*; Footprint: Package_DIP:DIP-20_W7.62mm; Datasheet: http://ww1.microchip.com/downloads/en/DeviceDoc/atmel-2588-8-bit-avr-microcontrollers-tinyavr-attiny261-attiny461-attiny861_datasheet.pdf; Description_: 10MHz, 4kB Flash, 256B SRAM, 256B EEPROM, DIP-20
pins: 1 PB0, 2 PB1, 3 PB2, 4 PB3, 5 VCC, 6 GND, 7 XTAL1/PB4, 8 XTAL2/PB5, 9 PB6, 10 ~{{RESET}/PB7}, 11 PA7, 12 PA6, 13 PA5, 14 PA4, 15 AVCC, 16 AGND, 17 AREF/PA3, 18 PA2, 19 PA1, 20 PA0

## ATtiny461V-10S
designator *  value ATtiny461V-10S  Reference: U
10MHz, 4kB Flash, 256B SRAM, 256B EEPROM, SOIC-20; ki_keywords: AVR 8bit Microcontroller tinyAVR; ki_fp_filters: SOIC*7.5x12.8mm*P1.27mm*; Footprint: Package_SO:SOIC-20W_7.5x12.8mm_P1.27mm; Datasheet: http://ww1.microchip.com/downloads/en/DeviceDoc/atmel-2588-8-bit-avr-microcontrollers-tinyavr-attiny261-attiny461-attiny861_datasheet.pdf; Description_: 10MHz, 4kB Flash, 256B SRAM, 256B EEPROM, SOIC-20
pins: 1 PB0, 2 PB1, 3 PB2, 4 PB3, 5 VCC, 6 GND, 7 XTAL1/PB4, 8 XTAL2/PB5, 9 PB6, 10 ~{{RESET}/PB7}, 11 PA7, 12 PA6, 13 PA5, 14 PA4, 15 AVCC, 16 AGND, 17 AREF/PA3, 18 PA2, 19 PA1, 20 PA0

## ATtiny804-SS
designator *  value ATtiny804-SS  Reference: U
20MHz, 8kB Flash, 512B SRAM, 128B EEPROM, SOIC-14; ki_keywords: AVR 8bit Microcontroller tinyAVR; ki_fp_filters: SOIC*3.9x8.7mm*P1.27mm*; Footprint: Package_SO:SOIC-14_3.9x8.7mm_P1.27mm; Datasheet: http://ww1.microchip.com/downloads/en/DeviceDoc/ATtiny804_1604-Data-Sheet-40002028A.pdf; Description_: 20MHz, 8kB Flash, 512B SRAM, 128B EEPROM, SOIC-14
pins: 1 VCC, 2 PA4, 3 PA5, 4 PA6, 5 PA7, 6 PB3, 7 PB2, 8 PB1, 9 PB0, 10 ~{{RESET}/PA0}, 11 PA1, 12 PA2, 13 PA3, 14 GND

## ATtiny806-M
designator *  value ATtiny806-M  Reference: U
20MHz, 8kB Flash, 512B SRAM, 128B EEPROM, VQFN-20; ki_keywords: AVR 8bit Microcontroller tinyAVR; ki_fp_filters: VQFN*1EP*3x3mm*P0.4mm*; Footprint: Package_DFN_QFN:VQFN-20-1EP_3x3mm_P0.4mm_EP1.7x1.7mm; Datasheet: http://ww1.microchip.com/downloads/en/DeviceDoc/ATtiny806_1606_Data_Sheet_40002029A.pdf; Description_: 20MHz, 8kB Flash, 512B SRAM, 128B EEPROM, VQFN-20
pins: 1 PA2, 2 PA3, 3 GND, 4 VCC, 5 PA4, 6 PA5, 7 PA6, 8 PA7, 9 PB5, 10 PB4, 11 PB3, 12 PB2, 13 PB1, 14 PB0, 15 PC0, 16 PC1, 17 PC2, 18 PC3, 19 ~{{RESET}/PA0}, 20 PA1, 21 GND

## ATtiny806-S
designator *  value ATtiny806-S  Reference: U
20MHz, 8kB Flash, 512B SRAM, 128B EEPROM, SOIC-20; ki_keywords: AVR 8bit Microcontroller tinyAVR; ki_fp_filters: SOIC*7.5x12.8mm*P1.27mm*; Footprint: Package_SO:SOIC-20W_7.5x12.8mm_P1.27mm; Datasheet: http://ww1.microchip.com/downloads/en/DeviceDoc/ATtiny806_1606_Data_Sheet_40002029A.pdf; Description_: 20MHz, 8kB Flash, 512B SRAM, 128B EEPROM, SOIC-20
pins: 1 VCC, 2 PA4, 3 PA5, 4 PA6, 5 PA7, 6 PB5, 7 PB4, 8 PB3, 9 PB2, 10 PB1, 11 PB0, 12 PC0, 13 PC1, 14 PC2, 15 PC3, 16 ~{{RESET}/PA0}, 17 PA1, 18 PA2, 19 PA3, 20 GND

## ATtiny807-M
designator *  value ATtiny807-M  Reference: U
20MHz, 8kB Flash, 512B SRAM, 128B EEPROM, VQFN-24; ki_keywords: AVR 8bit Microcontroller tinyAVR; ki_fp_filters: QFN*1EP*4x4mm*P0.5mm*; Footprint: Package_DFN_QFN:QFN-24-1EP_4x4mm_P0.5mm_EP2.6x2.6mm; Datasheet: http://ww1.microchip.com/downloads/en/DeviceDoc/ATtiny807_1607-Data-Sheet-40002030A.pdf; Description_: 20MHz, 8kB Flash, 512B SRAM, 128B EEPROM, VQFN-24
pins: 1 PA2, 2 PA3, 3 GND, 4 VCC, 5 PA4, 6 PA5, 7 PA6, 8 PA7, 9 PB7, 10 PB6, 11 PB5, 12 PB4, 13 PB3, 14 PB2, 15 PB1, 16 PB0, 17 PC0, 18 PC1, 19 PC2, 20 PC3, 21 PC4, 22 PC5, 23 ~{{RESET}/PA0}, 24 PA1, 25 GND

## ATtiny814-SS
designator *  value ATtiny814-SS  Reference: U
20MHz, 8kB Flash, 512B SRAM, 128B EEPROM, SOIC-14; ki_keywords: AVR 8bit Microcontroller tinyAVR; ki_fp_filters: SOIC*3.9x8.7mm*P1.27mm*; Footprint: Package_SO:SOIC-14_3.9x8.7mm_P1.27mm; Datasheet: http://ww1.microchip.com/downloads/en/DeviceDoc/40001912A.pdf; Description_: 20MHz, 8kB Flash, 512B SRAM, 128B EEPROM, SOIC-14
pins: 1 VCC, 2 PA4, 3 PA5, 4 PA6, 5 PA7, 6 PB3, 7 PB2, 8 PB1, 9 PB0, 10 ~{{RESET}/PA0}, 11 PA1, 12 PA2, 13 PA3, 14 GND

## ATtiny816-M
designator *  value ATtiny816-M  Reference: U
20MHz, 8kB Flash, 512B SRAM, 128B EEPROM, VQFN-20; ki_keywords: AVR 8bit Microcontroller tinyAVR; ki_fp_filters: VQFN*1EP*3x3mm*P0.4mm*; Footprint: Package_DFN_QFN:VQFN-20-1EP_3x3mm_P0.4mm_EP1.7x1.7mm; Datasheet: http://ww1.microchip.com/downloads/en/DeviceDoc/40001913A.pdf; Description_: 20MHz, 8kB Flash, 512B SRAM, 128B EEPROM, VQFN-20
pins: 1 PA2, 2 PA3, 3 GND, 4 VCC, 5 PA4, 6 PA5, 7 PA6, 8 PA7, 9 PB5, 10 PB4, 11 PB3, 12 PB2, 13 PB1, 14 PB0, 15 PC0, 16 PC1, 17 PC2, 18 PC3, 19 ~{{RESET}/PA0}, 20 PA1, 21 GND

## ATtiny816-S
designator *  value ATtiny816-S  Reference: U
20MHz, 8kB Flash, 512B SRAM, 128B EEPROM, SOIC-20; ki_keywords: AVR 8bit Microcontroller tinyAVR; ki_fp_filters: SOIC*7.5x12.8mm*P1.27mm*; Footprint: Package_SO:SOIC-20W_7.5x12.8mm_P1.27mm; Datasheet: http://ww1.microchip.com/downloads/en/DeviceDoc/40001913A.pdf; Description_: 20MHz, 8kB Flash, 512B SRAM, 128B EEPROM, SOIC-20
pins: 1 VCC, 2 PA4, 3 PA5, 4 PA6, 5 PA7, 6 PB5, 7 PB4, 8 PB3, 9 PB2, 10 PB1, 11 PB0, 12 PC0, 13 PC1, 14 PC2, 15 PC3, 16 ~{{RESET}/PA0}, 17 PA1, 18 PA2, 19 PA3, 20 GND

## ATtiny817-M
designator *  value ATtiny817-M  Reference: U
20MHz, 8kB Flash, 512B SRAM, 128B EEPROM, VQFN-24; ki_keywords: AVR 8bit Microcontroller tinyAVR; ki_fp_filters: QFN*1EP*4x4mm*P0.5mm*; Footprint: Package_DFN_QFN:QFN-24-1EP_4x4mm_P0.5mm_EP2.6x2.6mm; Datasheet: http://ww1.microchip.com/downloads/en/DeviceDoc/40001901B.pdf; Description_: 20MHz, 8kB Flash, 512B SRAM, 128B EEPROM, VQFN-24
pins: 1 PA2, 2 PA3, 3 GND, 4 VCC, 5 PA4, 6 PA5, 7 PA6, 8 PA7, 9 PB7, 10 PB6, 11 PB5, 12 PB4, 13 PB3, 14 PB2, 15 PB1, 16 PB0, 17 PC0, 18 PC1, 19 PC2, 20 PC3, 21 PC4, 22 PC5, 23 ~{{RESET}/PA0}, 24 PA1, 25 GND

## ATtiny824-SS
designator *  value ATtiny824-SS  Reference: U
20MHz, 8kB Flash, 1kB SRAM, 128B EEPROM, SOIC-14; ki_keywords: AVR 8bit Microcontroller tinyAVR; ki_fp_filters: SOIC*3.9x8.7mm*P1.27mm*; Footprint: Package_SO:SOIC-14_3.9x8.7mm_P1.27mm; Datasheet: https://ww1.microchip.com/downloads/en/DeviceDoc/ATtiny424-426-427-824-826-827-DataSheet-DS40002311A.pdf; Description_: 20MHz, 8kB Flash, 1kB SRAM, 128B EEPROM, SOIC-14
pins: 1 VCC, 2 PA4, 3 PA5, 4 PA6, 5 PA7, 6 PB3, 7 PB2, 8 PB1, 9 PB0, 10 ~{{RESET}/PA0}, 11 PA1, 12 PA2, 13 PA3, 14 GND

## ATtiny824-X
designator *  value ATtiny824-X  Reference: U
20MHz, 8kB Flash, 1kB SRAM, 128B EEPROM, TSSOP-14; ki_keywords: AVR 8bit Microcontroller tinyAVR; ki_fp_filters: TSSOP*4.4x5mm*P0.65mm*; Footprint: Package_SO:TSSOP-14_4.4x5mm_P0.65mm; Datasheet: https://ww1.microchip.com/downloads/en/DeviceDoc/ATtiny424-426-427-824-826-827-DataSheet-DS40002311A.pdf; Description_: 20MHz, 8kB Flash, 1kB SRAM, 128B EEPROM, TSSOP-14
pins: 1 VCC, 2 PA4, 3 PA5, 4 PA6, 5 PA7, 6 PB3, 7 PB2, 8 PB1, 9 PB0, 10 ~{{RESET}/PA0}, 11 PA1, 12 PA2, 13 PA3, 14 GND

## ATtiny826-M
designator *  value ATtiny826-M  Reference: U
20MHz, 8kB Flash, 1kB SRAM, 128B EEPROM, VQFN-20; ki_keywords: AVR 8bit Microcontroller tinyAVR; ki_fp_filters: VQFN*1EP*3x3mm*P0.4mm*; Footprint: Package_DFN_QFN:VQFN-20-1EP_3x3mm_P0.4mm_EP1.7x1.7mm; Datasheet: https://ww1.microchip.com/downloads/en/DeviceDoc/ATtiny424-426-427-824-826-827-DataSheet-DS40002311A.pdf; Description_: 20MHz, 8kB Flash, 1kB SRAM, 128B EEPROM, VQFN-20
pins: 1 PA2, 2 PA3, 3 GND, 4 VCC, 5 PA4, 6 PA5, 7 PA6, 8 PA7, 9 PB5, 10 PB4, 11 PB3, 12 PB2, 13 PB1, 14 PB0, 15 PC0, 16 PC1, 17 PC2, 18 PC3, 19 ~{{RESET}/PA0}, 20 PA1, 21 GND

## ATtiny826-S
designator *  value ATtiny826-S  Reference: U
20MHz, 8kB Flash, 1kB SRAM, 128B EEPROM, SOIC-20; ki_keywords: AVR 8bit Microcontroller tinyAVR; ki_fp_filters: SOIC*7.5x12.8mm*P1.27mm*; Footprint: Package_SO:SOIC-20W_7.5x12.8mm_P1.27mm; Datasheet: https://ww1.microchip.com/downloads/en/DeviceDoc/ATtiny424-426-427-824-826-827-DataSheet-DS40002311A.pdf; Description_: 20MHz, 8kB Flash, 1kB SRAM, 128B EEPROM, SOIC-20
pins: 1 VCC, 2 PA4, 3 PA5, 4 PA6, 5 PA7, 6 PB5, 7 PB4, 8 PB3, 9 PB2, 10 PB1, 11 PB0, 12 PC0, 13 PC1, 14 PC2, 15 PC3, 16 ~{{RESET}/PA0}, 17 PA1, 18 PA2, 19 PA3, 20 GND

## ATtiny826-X
designator *  value ATtiny826-X  Reference: U
20MHz, 8kB Flash, 1kB SRAM, 128B EEPROM, SSOP-20; ki_keywords: AVR 8bit Microcontroller tinyAVR; ki_fp_filters: SSOP*5.3x7.2mm*P0.65mm*; Footprint: Package_SO:SSOP-20_5.3x7.2mm_P0.65mm; Datasheet: https://ww1.microchip.com/downloads/en/DeviceDoc/ATtiny424-426-427-824-826-827-DataSheet-DS40002311A.pdf; Description_: 20MHz, 8kB Flash, 1kB SRAM, 128B EEPROM, SSOP-20
pins: 1 VCC, 2 PA4, 3 PA5, 4 PA6, 5 PA7, 6 PB5, 7 PB4, 8 PB3, 9 PB2, 10 PB1, 11 PB0, 12 PC0, 13 PC1, 14 PC2, 15 PC3, 16 ~{{RESET}/PA0}, 17 PA1, 18 PA2, 19 PA3, 20 GND

## ATtiny827-M
designator *  value ATtiny827-M  Reference: U
20MHz, 8kB Flash, 1kB SRAM, 128B EEPROM, VQFN-24; ki_keywords: AVR 8bit Microcontroller tinyAVR; ki_fp_filters: QFN*1EP*4x4mm*P0.5mm*; Footprint: Package_DFN_QFN:QFN-24-1EP_4x4mm_P0.5mm_EP2.6x2.6mm; Datasheet: https://ww1.microchip.com/downloads/en/DeviceDoc/ATtiny424-426-427-824-826-827-DataSheet-DS40002311A.pdf; Description_: 20MHz, 8kB Flash, 1kB SRAM, 128B EEPROM, VQFN-24
pins: 1 PA2, 2 PA3, 3 GND, 4 VCC, 5 PA4, 6 PA5, 7 PA6, 8 PA7, 9 PB7, 10 PB6, 11 PB5, 12 PB4, 13 PB3, 14 PB2, 15 PB1, 16 PB0, 17 PC0, 18 PC1, 19 PC2, 20 PC3, 21 PC4, 22 PC5, 23 ~{{RESET}/PA0}, 24 PA1, 25 GND

## ATtiny828-A
designator *  value ATtiny828-A  Reference: U
20MHz, 8kB Flash, 512B SRAM, 256B EEPROM, debugWIRE, TQFP-32; ki_keywords: AVR 8bit Microcontroller tinyAVR; ki_fp_filters: TQFP*7x7mm*P0.8mm*; Footprint: Package_QFP:TQFP-32_7x7mm_P0.8mm; Datasheet: http://ww1.microchip.com/downloads/en/DeviceDoc/doc8371.pdf; Description_: 20MHz, 8kB Flash, 512B SRAM, 256B EEPROM, debugWIRE, TQFP-32
pins: 1 PC2, 2 PC3, 3 PC4, 4 VCC, 5 GND, 6 PC5, 7 PC6, 8 PC7, 9 PA0, 10 PA1, 11 PA2, 12 PA3, 13 PA4, 14 PA5, 15 PA6, 16 PA7, 17 PB0, 18 AVCC, 19 PB1, 20 PB2, 21 GND, 22 PB3, 23 PB4, 24 PB5, 25 PB6, 26 PB7, 27 PD0, 28 PD1, 29 PD2/~{{RESET}}, 30 PD3, 31 PC0, 32 PC1